# Altium integrated library Processor.IntLib: 68 symbols (part 2 of 4)
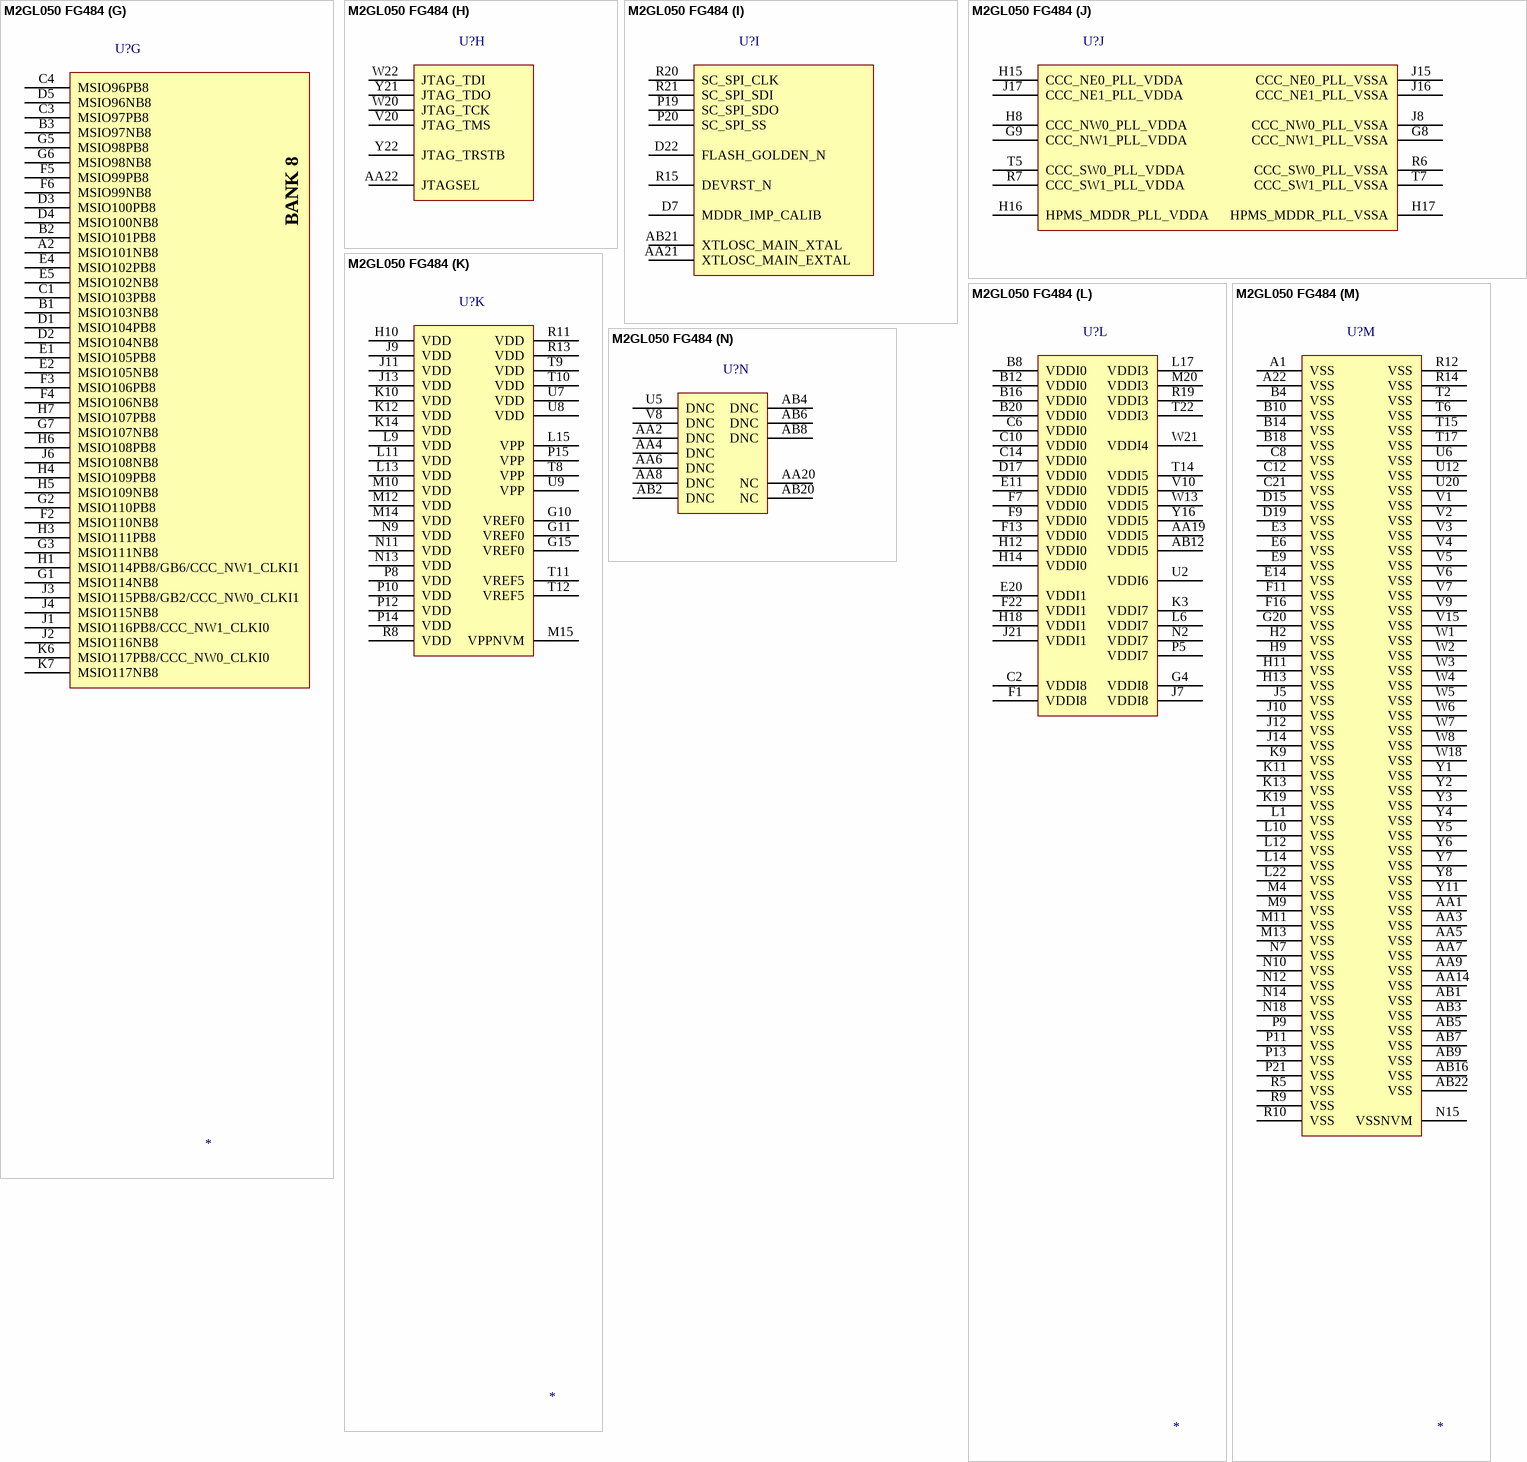
[diagram p28: symbol M2GL050 FG484]

## M2GL050 FG484
designator U?
IGLOO2 FPGA and SmartFusion2 SoC  FPGA; Value: *
footprint BGA484 P1.0 C23X23 H2.2 (BGA, 484-Balls, Body 23x23mm, Pitch 1mm, Microsemi)
part A pins: A3 DDRIO72NB0, A4 DDRIO72PB0, A5 DDRIO67NB0, A6 DDRIO66NB0, A7 DDRIO87PB0/CCC_NW1_CLKI3/MDDR_DQ_ECC1, A8 DDRIO87NB0/MDDR_DQ_ECC0, A9 DDRIO86NB0/MDDR_DQ1, A10 DDRIO83PB0/MDDR_DM_RDQS0, A11 DDRIO83NB0/MDDR_DQ4, A12 DDRIO80PB0/MDDR_DQ8, A13 DDRIO80NB0/MDDR_DQ9, A14 DDRIO76PB0/GB12/CCC_NE1_CLKI2/MDDR_DQ12, A15 DDRIO76NB0/MDDR_DQ13, A16 DDRIO59PB0/MDDR_CLK, A17 DDRIO59NB0/MDDR_CLK_N, A18 DDRIO58PB0/MDDR_BA0, A19 DDRIO58NB0/MDDR_BA1, A20 DDRIO54NB0/MDDR_ADDR6, A21 DDRIO51PB0/MDDR_ADDR10, B5 DDRIO67PB0, B6 DDRIO66PB0, B7 DDRIO90NB0/MDDR_DQS_ECC_N, B9 DDRIO86PB0/MDDR_DQ0, B11 DDRIO84PB0/MDDR_DQS0, B13 DDRIO78PB0/GB8/CCC_NE0_CLKI3/MDDR_DQS1, B15 DDRIO61PB0/MDDR_CKE, B17 DDRIO57NB0/MDDR_ADDR0, B19 DDRIO54PB0/MDDR_ADDR5, B21 DDRIO51NB0/MDDR_ADDR11, C5 DDRIO74PB0, C7 DDRIO90PB0/MDDR_DQS_ECC, C9 DDRIO88NB0, C11 DDRIO84NB0/MDDR_DQS0_N, C13 DDRIO78NB0/MDDR_DQS1_N, C15 DDRIO61NB0/MDDR_CS_N, C16 DDRIO57PB0/MDDR_BA2, C17 DDRIO55PB0/MDDR_ADDR3, C18 DDRIO55NB0/MDDR_ADDR4, C19 DDRIO53NB0/MDDR_ADDR7, C20 DDRIO53PB0/MDDR_ODT, D6 DDRIO74NB0, D8 DDRIO89NB0/MDDR_DM_RDQS_ECC, D9 DDRIO88PB0, D10 DDRIO82PB0/MDDR_DQ5, D11 DDRIO82NB0/MDDR_DQ6, D12 DDRIO79PB0/CCC_NE0_CLKI2/MDDR_DQ10, D13 DDRIO79NB0/MDDR_DQ11, D14 DDRIO75PB0/CCC_NE1_CLKI3/MDDR_DQ14, D16 DDRIO56PB0/MDDR_ADDR1, D18 DDRIO49PB0/MDDR_ADDR14, D20 DDRIO50NB0/MDDR_ADDR13, E7 DDRIO92PB0/MDDR_TMATCH_ECC_OUT, E8 DDRIO89PB0/MDDR_TMATCH_ECC_IN, E10 DDRIO85NB0/MDDR_DQ3, E12 DDRIO81PB0/MDDR_DQ7, E13 DDRIO75NB0/MDDR_DQ15, E15 DDRIO60PB0/MDDR_RESET_N, E16 DDRIO56NB0/MDDR_ADDR2, E17 DDRIO52PB0/MDDR_ADDR8, E18 DDRIO49NB0/MDDR_ADDR15, E19 DDRIO50PB0/MDDR_ADDR12, F8 DDRIO92NB0/CCC_NW0_CLKI2, F10 DDRIO85PB0/MDDR_DQ2, F12 DDRIO81NB0/MDDR_TMATCH_0_OUT, F14 DDRIO62PB0/MDDR_RAS_N, F15 DDRIO60NB0/MDDR_CAS_N, F17 DDRIO52NB0/MDDR_ADDR9, G12 DDRIO77PB0/MDDR_TMATCH_0_IN, G13 DDRIO77NB0/MDDR_DM_RDQS1, G14 DDRIO62NB0/MDDR_WE_N
part B pins: B22 MSIO47NB1, C22 MSIO47PB1, D21 MSI46NB1, E21 MSIO45NB1, E22 MSIO45PB1, F18 MSIO44NB1, F19 MSIO44PB1, F20 MSIO43NB1, F21 MSIO43PB1, G16 MSIO48NB1, G17 MSIO48PB1, G18 MSIO42NB1, G19 MSIO42PB1/GB14/VCCC_SE1_CLKI, G21 MSIO40NB1, G22 MSIO40PB1/CCC_NE1_CLKI1, H19 MSIO41NB1, H20 MSIO41PB1/GB10/VCCC_SE0_CLKI, H21 MSIO38NB1, H22 MSIO38PB1, J19 MSIO39NB1, J20 MSIO39PB1/CCC_NE0_CLKI1
part C pins: J18 MSIO24NB3, J22 MSIO20NB3/GB13/VCCC_SE1_CLKI, K15 MSIO22NB3, K16 MSIO23NB3, K17 MSIO23PB3, K18 MSIO24PB3, K20 MSIO19NB3, K21 MSIO19PB3, K22 MSIO20PB3/GB9/VCCC_SE0_CLKI, L16 MSIO22PB3, L18 MSIO18NB3, L19 MSIO18PB3, L20 MSIO17NB3, L21 MSIO17PB3, M16 MSIO14PB3, M17 MSIO14NB3, M18 MSIO15PB3, M19 MSIO15NB3, M21 MSIO16PB3, M22 MSIO16NB3, N16 MSIO8PB3, N17 MSIO8NB3, N19 MSIO12PB3/SPI_0_CLK, N20 MSIO12NB3/SPI_0_SDI, N21 MSIO13PB3/SPI_0_SDO, N22 MSIO13NB3/SPI_0_SS0, P16 MSIO7NB3, P17 MSIO6PB3, P18 MSIO6NB3, P22 MSIO11PB3/CCC_NE0_CLKI0, R16 MSIO7PB3, R17 MSIO1PB3, R18 MSIO1NB3, R22 MSIO11NB3/CCC_NE1_CLKI0, T18 MSIO2PB3, T19 MSIO2NB3, T20 MSIO5PB3, T21 MSIO5NB3, U19 MSIO0PB3, U21 MSIO4NB3, U22 MSIO4PB3, V19 MSIO0NB3, V21 MSIO3NB3, V22 MSIO3PB3
part D pins: AA10 DDRIO149PB5, AA11 DDRIO152PB5/GB3/CCC_SW0_CLKI3, AA12 DDRIO157PB5, AA13 DDRIO162PB5, AA15 DDRIO164NB5, AA16 DDRIO167PB5, AA17 DDRIO167NB5, AA18 DDRIO174NB5, AB10 DDRIO149NB5, AB11 DDRIO152NB5/GB7/CCC_SW1_CLKI2, AB13 DDRIO161PB5/GB11/VCCC_SE0_CLKI, AB14 DDRIO161NB5, AB15 DDRIO164PB5/VCCC_SE1_CLKI, AB17 DDRIO174PB5, AB18 DDRIO177PB5, AB19 DDRIO177NB5, T13 DDRIO166NB5, T16 DDRIO186NB5, U10 DDRIO154PB5, U11 DDRIO154NB5, U13 DDRIO166PB5, U14 DDRIO176PB5, U15 DDRIO176NB5, U16 DDRIO186PB5, U17 DDRIO189NB5, U18 DDRIO190NB5, V11 DDRIO156PB5, V12 DDRIO159NB5, V13 DDRIO171PB5, V14 DDRIO171NB5, V16 DDRIO184NB5, V17 DDRIO189PB5, V18 DDRIO190PB5, W9 DDRIO148PB5/PROBE_A, W10 DDRIO151PB5, W11 DDRIO156NB5, W12 DDRIO159PB5/CCC_SW1_CLKI3, W14 DDRIO169NB5, W15 DDRIO172NB5, W16 DDRIO184PB5, W17 DDRIO182NB5, W19 DDRIO187NB5, Y9 DDRIO148NB5/PROBE_B, Y10 DDRIO151NB5, Y12 DDRIO157NB5, Y13 DDRIO162NB5, Y14 DDRIO169PB5, Y15 DDRIO172PB5, Y17 DDRIO182PB5, Y18 DDRIO181PB5, Y19 DDRIO181NB5, Y20 DDRIO187PB5
part E pins: T1 MSIOD145NB6, U1 MSIOD145PB6, U3 MSIOD146PB6, U4 MSIOD146NB6
part F pins: K1 MSIOD121PB7/CCC_SW0_CLKI0, K2 MSIOD121NB7, K4 MSIOD118PB7/GB5/CCC_SW1_CLKI1, K5 MSIOD118NB7, K8 MSIOD119PB7/GB1/CCC_SW0_CLKI1, L2 MSIOD122PB7, L3 MSIOD122NB7, L4 MSIOD123PB7, L5 MSIOD123NB7, L7 MSIOD120NB7, L8 MSIOD119NB7, M1 MSIOD128NB7, M2 MSIOD126NB7, M3 MSIOD126PB7, M5 MSIOD124PB7, M6 MSIOD124NB7, M7 MSIOD120PB7/CCC_SW1_CLKI0, M8 MSIOD131NB7, N1 MSIOD128PB7, N3 MSIOD127PB7, N4 MSIOD127NB7, N5 MSIOD125PB7, N6 MSIOD125NB7, N8 MSIOD131PB7, P1 MSIOD130PB7, P2 MSIOD130NB7, P3 MSIOD129NB7, P4 MSIOD129PB7, P6 MSIOD132PB7, P7 MSIOD132NB7, R1 MSIOD133NB7, R2 MSIOD133PB7, R3 MSIOD134PB7, R4 MSIOD134NB7, T3 MSIOD135NB7, T4 MSIOD135PB7
part G pins: A2 MSIO101NB8, B1 MSIO103NB8, B2 MSIO101PB8, B3 MSIO97NB8, C1 MSIO103PB8, C3 MSIO97PB8, C4 MSIO96PB8, D1 MSIO104PB8, D2 MSIO104NB8, D3 MSIO100PB8, D4 MSIO100NB8, D5 MSIO96NB8, E1 MSIO105PB8, E2 MSIO105NB8, E4 MSIO102PB8, E5 MSIO102NB8, F2 MSIO110NB8, F3 MSIO106PB8, F4 MSIO106NB8, F5 MSIO99PB8, F6 MSIO99NB8, G1 MSIO114NB8, G2 MSIO110PB8, G3 MSIO111NB8, G5 MSIO98PB8, G6 MSIO98NB8, G7 MSIO107NB8, H1 MSIO114PB8/GB6/CCC_NW1_CLKI1, H3 MSIO111PB8, H4 MSIO109PB8, H5 MSIO109NB8, H6 MSIO108PB8, H7 MSIO107PB8, J1 MSIO116PB8/CCC_NW1_CLKI0, J2 MSIO116NB8, J3 MSIO115PB8/GB2/CCC_NW0_CLKI1, J4 MSIO115NB8, J6 MSIO108NB8, K6 MSIO117PB8/CCC_NW0_CLKI0, K7 MSIO117NB8
part H pins: AA22 JTAGSEL "Pull-up to VDDI4 through 1K ohm Resistor", V20 JTAG_TMS, W20 JTAG_TCK "Connect to either VDDI4 or VSS through resistor (200 to 1K ohm)", W22 JTAG_TDI, Y21 JTAG_TDO, Y22 JTAG_TRSTB "DNC or Pull down to VSS through 1K ohm resistor for upset immunity"
part I pins: AA21 XTLOSC_MAIN_EXTAL "Nominal 50K ohm internal weak pull-up to VPP. If unused, it can be left floating (DNC). The pin should not be grounded (VSS)", AB21 XTLOSC_MAIN_XTAL "Nominal 50K ohm internal weak pull-up to VPP. If unused, it can be left floating (DNC). The pin should not be grounded (VSS)", D7 MDDR_IMP_CALIB "DNC or VSS or VSS through the corresponding resistor.", D22 FLASH_GOLDEN_N, P19 SC_SPI_SDO, P20 SC_SPI_SS, R15 DEVRST_N "Pull up to VPP through 10 KOhm resistor. Nominal 22K ohm internal pull-up", R20 SC_SPI_CLK, R21 SC_SPI_SDI
part J pins: G8 CCC_NW1_PLL_VSSA, G9 CCC_NW1_PLL_VDDA "Must connect directly to 3.3V or 2.5V", H8 CCC_NW0_PLL_VDDA "Must connect directly to 3.3V or 2.5V", H15 CCC_NE0_PLL_VDDA "Must connect directly to 3.3V or 2.5V", H16 HPMS_MDDR_PLL_VDDA "Must connect directly to 3.3V or 2.5V", H17 HPMS_MDDR_PLL_VSSA, J8 CCC_NW0_PLL_VSSA, J15 CCC_NE0_PLL_VSSA, J16 CCC_NE1_PLL_VSSA, J17 CCC_NE1_PLL_VDDA "Must connect directly to 3.3V or 2.5V", R6 CCC_SW0_PLL_VSSA, R7 CCC_SW1_PLL_VDDA "Must connect directly to 3.3V or 2.5V", T5 CCC_SW0_PLL_VDDA "Must connect directly to 3.3V or 2.5V", T7 CCC_SW1_PLL_VSSA
part K pins: G10 VREF0 "DNC or VSS", G11 VREF0 "DNC or VSS", G15 VREF0 "DNC or VSS", H10 VDD "Must connect to VDD", J9 VDD "Must connect to VDD", J11 VDD "Must connect to VDD", J13 VDD "Must connect to VDD", K10 VDD "Must connect to VDD", K12 VDD "Must connect to VDD", K14 VDD "Must connect to VDD", L9 VDD "Must connect to VDD", L11 VDD "Must connect to VDD", L13 VDD "Must connect to VDD", L15 VPP "Must connect to VPP (2.5V or 3.3V)", M10 VDD "Must connect to VDD", M12 VDD "Must connect to VDD", M14 VDD "Must connect to VDD", M15 VPPNVM "Must connect to VPP (2.5V or 3.3V)", N9 VDD "Must connect to VDD", N11 VDD "Must connect to VDD", N13 VDD "Must connect to VDD", P8 VDD "Must connect to VDD", P10 VDD "Must connect to VDD", P12 VDD "Must connect to VDD", P14 VDD "Must connect to VDD", P15 VPP "Must connect to VPP (2.5V or 3.3V)", R8 VDD "Must connect to VDD", R11 VDD "Must connect to VDD", R13 VDD "Must connect to VDD", T8 VPP "Must connect to 2.5V or 3.3V", T9 VDD "Must connect to VDD", T10 VDD "Must connect to VDD", T11 VREF5 "DNC or VSS", T12 VREF5 "DNC or VSS", U7 VDD "Must connect to VDD", U8 VDD "Must connect to VDD", U9 VPP "Must connect to VPP (2.5V or 3.3V)"
part L pins: AA19 VDDI5, AB12 VDDI5, B8 VDDI0, B12 VDDI0, B16 VDDI0, B20 VDDI0, C2 VDDI8, C6 VDDI0, C10 VDDI0, C14 VDDI0, D17 VDDI0, E11 VDDI0, E20 VDDI1 "Must Connect to VDDI1", F1 VDDI8, F7 VDDI0, F9 VDDI0, F13 VDDI0, F22 VDDI1 "Must Connect to VDDI1", G4 VDDI8, H12 VDDI0, H14 VDDI0, H18 VDDI1 "Must Connect to VDDI1", J7 VDDI8, J21 VDDI1 "Must Connect to VDDI1", K3 VDDI7, L6 VDDI7, L17 VDDI3 "Must Connect to VDDI3", M20 VDDI3 "Must Connect to VDDI3", N2 VDDI7, P5 VDDI7, R19 VDDI3 "Must Connect to VDDI3", T14 VDDI5, T22 VDDI3 "Must Connect to VDDI3", U2 VDDI6, V10 VDDI5, W13 VDDI5, W21 VDDI4, Y16 VDDI5
part M pins: A1 VSS, A22 VSS, AA1 VSS, AA3 VSS, AA5 VSS, AA7 VSS, AA9 VSS, AA14 VSS, AB1 VSS, AB3 VSS, AB5 VSS, AB7 VSS, AB9 VSS, AB16 VSS, AB22 VSS, B4 VSS, B10 VSS, B14 VSS, B18 VSS, C8 VSS, C12 VSS, C21 VSS, D15 VSS, D19 VSS, E3 VSS, E6 VSS, E9 VSS, E14 VSS, F11 VSS, F16 VSS, G20 VSS, H2 VSS, H9 VSS, H11 VSS, H13 VSS, J5 VSS, J10 VSS, J12 VSS, J14 VSS, K9 VSS, K11 VSS, K13 VSS, K19 VSS, L1 VSS, L10 VSS, L12 VSS, L14 VSS, L22 VSS, M4 VSS, M9 VSS, M11 VSS, M13 VSS, N7 VSS, N10 VSS, N12 VSS, N14 VSS, N15 VSSNVM, N18 VSS, P9 VSS, P11 VSS, P13 VSS, P21 VSS, R5 VSS, R9 VSS, R10 VSS, R12 VSS, R14 VSS, T2 VSS, T6 VSS, T15 VSS, T17 VSS, U6 VSS, U12 VSS, U20 VSS, V1 VSS, V2 VSS, V3 VSS, V4 VSS, V5 VSS, V6 VSS, V7 VSS, V9 VSS, V15 VSS, W1 VSS, W2 VSS, W3 VSS, W4 VSS, W5 VSS, W6 VSS, W7 VSS, W8 VSS, W18 VSS, Y1 VSS, Y2 VSS, Y3 VSS, Y4 VSS, Y5 VSS, Y6 VSS, Y7 VSS, Y8 VSS, Y11 VSS
part N pins: AA2 DNC, AA4 DNC, AA6 DNC, AA8 DNC, AA20 NC, AB2 DNC, AB4 DNC, AB6 DNC, AB8 DNC, AB20 NC, U5 DNC, V8 DNC
part A text: BANK 0
part B text: BANK 1
part C text: BANK 3
part D text: BANK 5
part E text: BANK 6
part F text: BANK 7
part G text: BANK 8

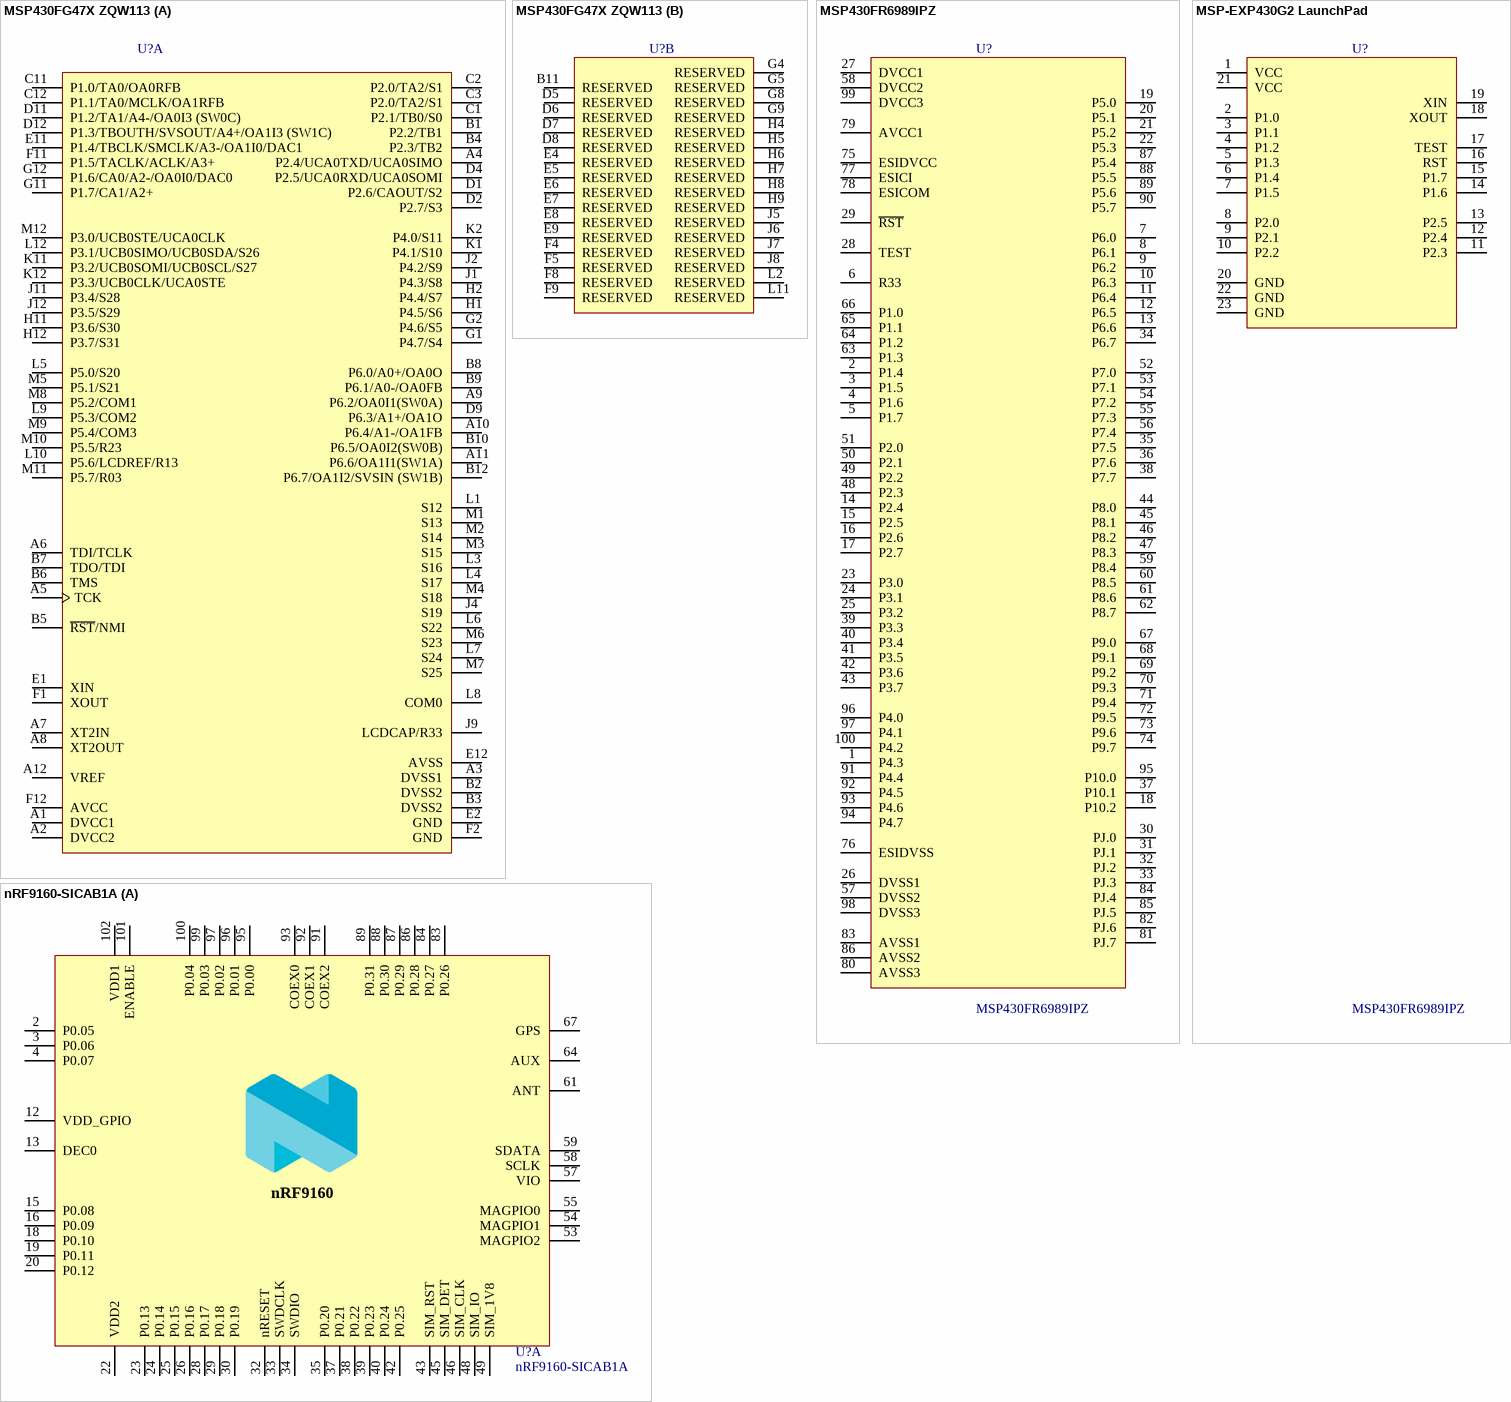
[diagram p11: symbols MSP430FG47X ZQW113 to nRF9160-SICAB1A]

## MSP430FG47X ZQW113
designator U?
Mixed Signal Microcontroller
footprint BGA113 P0.5 C7.0x7.0 H1.0 (BGA113 P0.5 C7.0x7.0 H1.0 Texas instrument ZQW113)
part A pins: A1 DVCC1 "Digital supply voltage, positive terminal. Supplies all digital parts.", A2 DVCC2 "Digital supply voltage, positive terminal. Supplies all digital parts.", A3 DVSS1 "Digital supply voltage, negative terminal. Supplies all digital parts.", A4 P2.4/UCA0TXD/UCA0SIMO, A5 TCK "Test clock (JTAG). TCK is the clock input port for device programming test and bootstrap loader start.", A6 TDI/TCLK, A7 XT2IN "Input port for crystal oscillator XT2", A8 XT2OUT "Output terminal of crystal oscillator XT2", A9 P6.2/OA0I1(SW0A), A10 P6.4/A1-/OA1FB, A11 P6.6/OA1I1(SW1A), A12 VREF "Input for an external reference voltage/internal reference voltage output", B1 P2.2/TB1, B2 DVSS2 "Digital supply voltage, negative terminal. Supplies all digital parts.", B3 DVSS2 "Digital supply voltage, negative terminal. Supplies all digital parts.", B4 P2.3/TB2, B5 ~{RST}/NMI, B6 TMS "Test mode select. TMS is used as an input port for device programming and test.", B7 TDO/TDI, B8 P6.0/A0+/OA0O, B9 P6.1/A0-/OA0FB, B10 P6.5/OA0I2(SW0B), B12 P6.7/OA1I2/SVSIN (SW1B), C1 P2.1/TB0/S0, C2 P2.0/TA2/S1, C3 P2.0/TA2/S1, C11 P1.0/TA0/OA0RFB, C12 P1.1/TA0/MCLK/OA1RFB, D1 P2.6/CAOUT/S2, D2 P2.7/S3, D4 P2.5/UCA0RXD/UCA0SOMI, D9 P6.3/A1+/OA1O, D11 P1.2/TA1/A4-/OA0I3 (SW0C), D12 P1.3/TBOUTH/SVSOUT/A4+/OA1I3 (SW1C), E1 XIN "Input port for crystal oscillator XT1. Standard or watch crystals can be connected.", E2 GND "Ground. It is used to shield the oscillator.", E11 P1.4/TBCLK/SMCLK/A3-/OA1I0/DAC1, E12 AVSS "Analog supply voltage, negative terminal.", F1 XOUT "Output port for crystal oscillator XT1. Standard or watch crystals can be connected.", F2 GND "Ground. It is used to shield the oscillator. See Note NO TAG.", F11 P1.5/TACLK/ACLK/A3+, F12 AVCC "Analog supply voltage, positive terminal.", G1 P4.7/S4, G2 P4.6/S5, G11 P1.7/CA1/A2+, G12 P1.6/CA0/A2-/OA0I0/DAC0, H1 P4.5/S6, H2 P4.4/S7, H11 P3.6/S30, H12 P3.7/S31, J1 P4.3/S8, J2 P4.2/S9, J4 S19 "LCD segment output 19", J9 LCDCAP/R33, J11 P3.4/S28, J12 P3.5/S29, K1 P4.1/S10, K2 P4.0/S11, K11 P3.2/UCB0SOMI/UCB0SCL/S27, K12 P3.3/UCB0CLK/UCA0STE, L1 S12 "LCD segment output 12", L3 S16 "LCD segment output 16", L4 S17 "LCD segment output 17", L5 P5.0/S20, L6 S22 "LCD segment output 22", L7 S24 "LCD segment output 24", L8 COM0 "Common output, COM0-3 are used for LCD backplanes", L9 P5.3/COM2, L10 P5.6/LCDREF/R13, L12 P3.1/UCB0SIMO/UCB0SDA/S26, M1 S13 "LCD segment output 13", M2 S14 "LCD segment output 14", M3 S15 "LCD segment output 15", M4 S18 "LCD segment output 18", M5 P5.1/S21, M6 S23 "LCD segment output 23", M7 S25 "LCD segment output 25", M8 P5.2/COM1, M9 P5.4/COM3, M10 P5.5/R23, M11 P5.7/R03, M12 P3.0/UCB0STE/UCA0CLK
part B pins: B11 RESERVED "BGA package unused balls. Connection to DVSS/AVSS recommended.", D5 RESERVED "BGA package unused balls. Connection to DVSS/AVSS recommended.", D6 RESERVED "BGA package unused balls. Connection to DVSS/AVSS recommended.", D7 RESERVED "BGA package unused balls. Connection to DVSS/AVSS recommended.", D8 RESERVED "BGA package unused balls. Connection to DVSS/AVSS recommended.", E4 RESERVED "BGA package unused balls. Connection to DVSS/AVSS recommended.", E5 RESERVED "BGA package unused balls. Connection to DVSS/AVSS recommended.", E6 RESERVED "BGA package unused balls. Connection to DVSS/AVSS recommended.", E7 RESERVED "BGA package unused balls. Connection to DVSS/AVSS recommended.", E8 RESERVED "BGA package unused balls. Connection to DVSS/AVSS recommended.", E9 RESERVED "BGA package unused balls. Connection to DVSS/AVSS recommended.", F4 RESERVED "BGA package unused balls. Connection to DVSS/AVSS recommended.", F5 RESERVED "BGA package unused balls. Connection to DVSS/AVSS recommended.", F8 RESERVED "BGA package unused balls. Connection to DVSS/AVSS recommended.", F9 RESERVED "BGA package unused balls. Connection to DVSS/AVSS recommended.", G4 RESERVED "BGA package unused balls. Connection to DVSS/AVSS recommended.", G5 RESERVED "BGA package unused balls. Connection to DVSS/AVSS recommended.", G8 RESERVED "BGA package unused balls. Connection to DVSS/AVSS recommended.", G9 RESERVED "BGA package unused balls. Connection to DVSS/AVSS recommended.", H4 RESERVED "BGA package unused balls. Connection to DVSS/AVSS recommended.", H5 RESERVED "BGA package unused balls. Connection to DVSS/AVSS recommended.", H6 RESERVED "BGA package unused balls. Connection to DVSS/AVSS recommended.", H7 RESERVED "BGA package unused balls. Connection to DVSS/AVSS recommended.", H8 RESERVED "BGA package unused balls. Connection to DVSS/AVSS recommended.", H9 RESERVED "BGA package unused balls. Connection to DVSS/AVSS recommended.", J5 RESERVED "BGA package unused balls. Connection to DVSS/AVSS recommended.", J6 RESERVED "BGA package unused balls. Connection to DVSS/AVSS recommended.", J7 RESERVED "BGA package unused balls. Connection to DVSS/AVSS recommended.", J8 RESERVED "BGA package unused balls. Connection to DVSS/AVSS recommended.", L2 RESERVED "BGA package unused balls. Connection to DVSS/AVSS recommended.", L11 RESERVED "BGA package unused balls. Connection to DVSS/AVSS recommended."

## MSP430FR6989IPZ
designator U?
16-bit Microcontrollers - MCU 16MHz ULP MCU; Value: MSP430FR6989IPZ
footprint QFP100 P0.5 C14X14 H1.4 (QFP, 100-Leads, Body 14x14mm, Pitch 0.5mm, IPC Medium Density)
pins: 1 P4.3, 2 P1.4, 3 P1.5, 4 P1.6, 5 P1.7, 6 R33, 7 P6.0, 8 P6.1, 9 P6.2, 10 P6.3, 11 P6.4, 12 P6.5, 13 P6.6, 14 P2.4, 15 P2.5, 16 P2.6, 17 P2.7, 18 P10.2, 19 P5.0, 20 P5.1, 21 P5.2, 22 P5.3, 23 P3.0, 24 P3.1, 25 P3.2, 26 DVSS1, 27 DVCC1, 28 TEST, 29 ~{RST}, 30 PJ.0, 31 PJ.1, 32 PJ.2, 33 PJ.3, 34 P6.7, 35 P7.5, 36 P7.6, 37 P10.1, 38 P7.7, 39 P3.3, 40 P3.4, 41 P3.5, 42 P3.6, 43 P3.7, 44 P8.0, 45 P8.1, 46 P8.2, 47 P8.3, 48 P2.3, 49 P2.2, 50 P2.1, 51 P2.0, 52 P7.0, 53 P7.1, 54 P7.2, 55 P7.3, 56 P7.4, 57 DVSS2, 58 DVCC2, 59 P8.4, 60 P8.5, 61 P8.6, 62 P8.7, 63 P1.3, 64 P1.2, 65 P1.1, 66 P1.0, 67 P9.0, 68 P9.1, 69 P9.2, 70 P9.3, 71 P9.4, 72 P9.5, 73 P9.6, 74 P9.7, 75 ESIDVCC, 76 ESIDVSS, 77 ESICI, 78 ESICOM, 79 AVCC1, 80 AVSS3, 81 PJ.7, 82 PJ.6, 83 AVSS1, 84 PJ.4, 85 PJ.5, 86 AVSS2, 87 P5.4, 88 P5.5, 89 P5.6, 90 P5.7, 91 P4.4, 92 P4.5, 93 P4.6, 94 P4.7, 95 P10.0, 96 P4.0, 97 P4.1, 98 DVSS3, 99 DVCC3, 100 P4.2

## MSP-EXP430G2 LaunchPad
designator U?, comment MSP430FR6989IPZ
16-bit Microcontrollers - MSP430 Family; Value: MSP430FR6989IPZ
footprint MSP-EXP430G2 LaunchPad (KIT MSP430G2553, Body 66x51mm)
pins: 1 VCC, 2 P1.0, 3 P1.1, 4 P1.2, 5 P1.3, 6 P1.4, 7 P1.5, 8 P2.0, 9 P2.1, 10 P2.2, 11 P2.3, 12 P2.4, 13 P2.5, 14 P1.6, 15 P1.7, 16 RST, 17 TEST, 18 XOUT, 19 XIN, 20 GND, 21 VCC, 22 GND, 23 GND

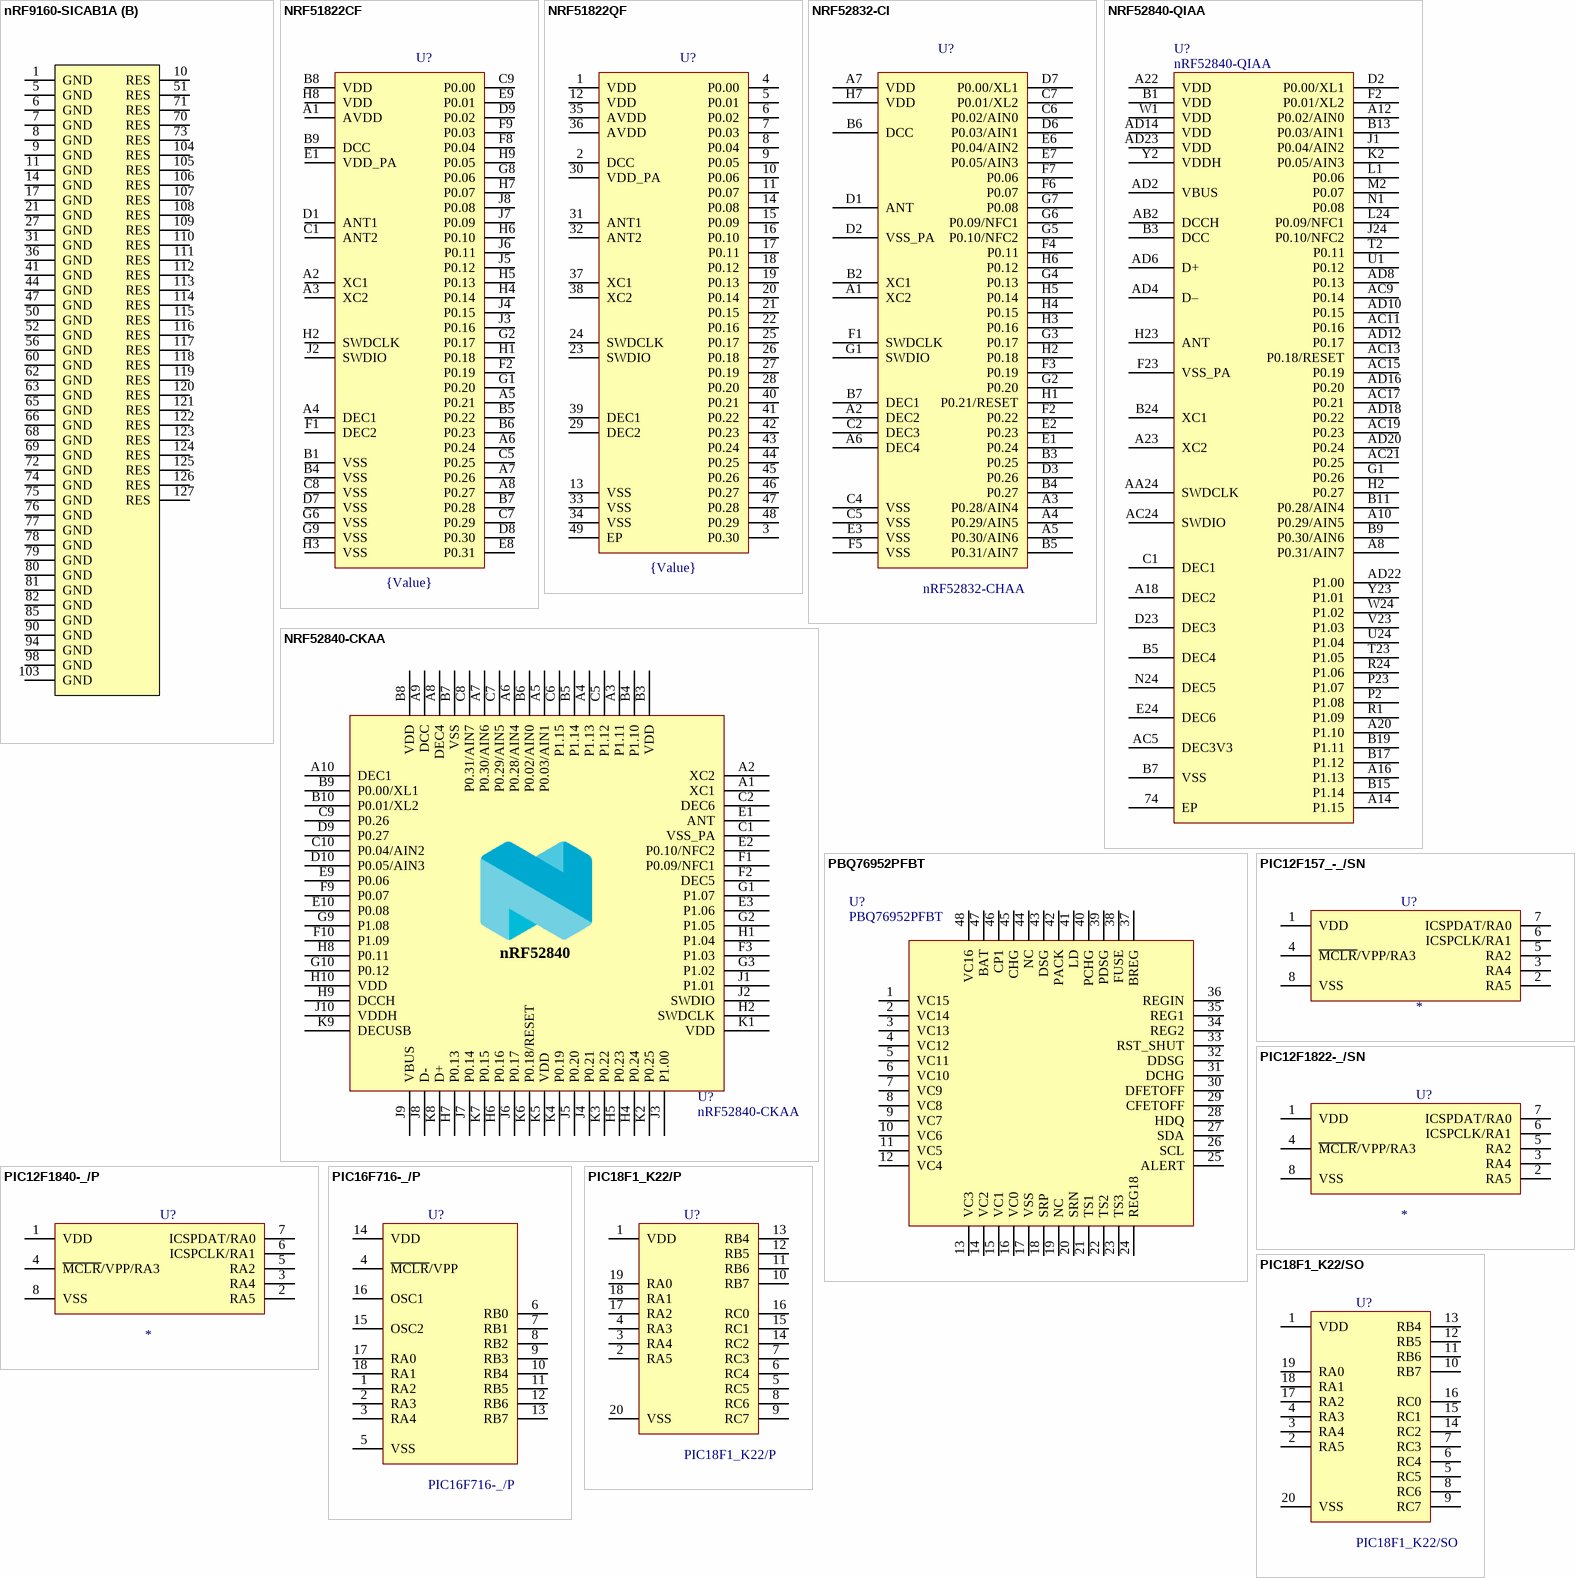
[diagram p12: symbols nRF9160-SICAB1A to PIC18F1_K22/SO]

## nRF9160-SICAB1A
designator U?
Low power System-in-Package with integrated LTE-M/NB-IoT modem and GPS; Value: nRF9160-SICAB1A; ComponentLink1URL: N.A.; ComponentLink1Description: Datasheet; ComponentLink2URL: N.A.; ComponentLink2Description: Supplier link
footprint nRF9160-SICAB1A (LGA, 103-Leads, Body 16x10mm, Pitch 0.5mm)
part A pins: 2 P0.05, 3 P0.06, 4 P0.07, 12 VDD_GPIO, 13 DEC0, 15 P0.08, 16 P0.09, 18 P0.10, 19 P0.11, 20 P0.12, 22 VDD2, 23 P0.13, 24 P0.14, 25 P0.15, 26 P0.16, 28 P0.17, 29 P0.18, 30 P0.19, 32 nRESET, 33 SWDCLK, 34 SWDIO, 35 P0.20, 37 P0.21, 38 P0.22, 39 P0.23, 40 P0.24, 42 P0.25, 43 SIM_RST, 45 SIM_DET, 46 SIM_CLK, 48 SIM_IO, 49 SIM_1V8, 53 MAGPIO2, 54 MAGPIO1, 55 MAGPIO0, 57 VIO, 58 SCLK, 59 SDATA, 61 ANT, 64 AUX, 67 GPS, 83 P0.26, 84 P0.27, 86 P0.28, 87 P0.29, 88 P0.30, 89 P0.31, 91 COEX2, 92 COEX1, 93 COEX0, 95 P0.00, 96 P0.01, 97 P0.02, 99 P0.03, 100 P0.04, 101 ENABLE, 102 VDD1
part B pins: 1 GND, 5 GND, 6 GND, 7 GND, 8 GND, 9 GND, 10 RES, 11 GND, 14 GND, 17 GND, 21 GND, 27 GND, 31 GND, 36 GND, 41 GND, 44 GND, 47 GND, 50 GND, 51 RES, 52 GND, 56 GND, 60 GND, 62 GND, 63 GND, 65 GND, 66 GND, 68 GND, 69 GND, 70 RES, 71 RES, 72 GND, 73 RES, 74 GND, 75 GND, 76 GND, 77 GND, 78 GND, 79 GND, 80 GND, 81 GND, 82 GND, 85 GND, 90 GND, 94 GND, 98 GND, 103 GND, 104 RES, 105 RES, 106 RES, 107 RES, 108 RES, 109 RES, 110 RES, 111 RES, 112 RES, 113 RES, 114 RES, 115 RES, 116 RES, 117 RES, 118 RES, 119 RES, 120 RES, 121 RES, 122 RES, 123 RES, 124 RES, 125 RES, 126 RES, 127 RES
part A text: nRF9160

## NRF51822CF
designator U?, comment {Value}
Multiprotocol Bluetooth® low energy/2.4 GHz RF System on Chip; Value: {Value}
footprint NRF51822CF (uBGA P0.4 C3.8x3.83)
pins: A1 AVDD, A2 XC1, A3 XC2, A4 DEC1, A5 P0.21, A6 P0.24, A7 P0.26, A8 P0.27, B1 VSS, B4 VSS, B5 P0.22, B6 P0.23, B7 P0.28, B8 VDD, B9 DCC, C1 ANT2, C5 P0.25, C6 hidden, C7 P0.29, C8 VSS, C9 P0.00, D1 ANT1, D7 VSS, D8 P0.30, D9 P0.02, E1 VDD_PA, E2 hidden, E3 hidden, E7 hidden, E8 P0.31, E9 P0.01, F1 DEC2, F2 P0.19, F3 hidden, F7 hidden, F8 P0.04, F9 P0.03, G1 P0.20, G2 P0.17, G3 hidden, G4 hidden, G5 hidden, G6 VSS, G7 hidden, G8 P0.06, G9 VSS, H1 P0.18, H2 SWDCLK, H3 VSS, H4 P0.14, H5 P0.13, H6 P0.10, H7 P0.07, H8 VDD, H9 P0.05, J2 SWDIO, J3 P0.16, J4 P0.15, J5 P0.12, J6 P0.11, J7 P0.09, J8 P0.08

## NRF51822QF
designator U?, comment value {Value}  (hidden comment: NRF51822)
Multiprotocol Bluetooth® low energy/2.4 GHz RF System on Chip
footprint NRF52822QF (QFN, 48-Leads, Body 6x6mm, Pitch 0.4mm, Thermal Pad 4.6x4.6mm, IPC Medium Density)
pins: 1 VDD, 2 DCC, 3 P0.30, 4 P0.00, 5 P0.01, 6 P0.02, 7 P0.03, 8 P0.04, 9 P0.05, 10 P0.06, 11 P0.07, 12 VDD, 13 VSS, 14 P0.08, 15 P0.09, 16 P0.10, 17 P0.11, 18 P0.12, 19 P0.13, 20 P0.14, 21 P0.15, 22 P0.16, 23 SWDIO, 24 SWDCLK, 25 P0.17, 26 P0.18, 27 P0.19, 28 P0.20, 29 DEC2, 30 VDD_PA, 31 ANT1, 32 ANT2, 33 VSS, 34 VSS, 35 AVDD, 36 AVDD, 37 XC1, 38 XC2, 39 DEC1, 40 P0.21, 41 P0.22, 42 P0.23, 43 P0.24, 44 P0.25, 45 P0.26, 46 P0.27, 47 P0.28, 48 P0.29, 49 EP

## NRF52832-CI
designator U?, comment nRF52832-CHAA
Multi-protocol Bluetooth Low Energy, ANT and 2.4GHz proprietary system-on-chip; Value: nRF52832-CHAA
footprint NRF52832CI (uBGA P0.4 C3.0x3.2)
pins: A1 XC2, A2 DEC2, A3 P0.28/AIN4, A4 P0.29/AIN5, A5 P0.30/AIN6, A6 DEC4, A7 VDD, B2 XC1, B3 P0.25, B4 P0.27, B5 P0.31/AIN7, B6 DCC, B7 DEC1, C2 DEC3, C4 VSS, C5 VSS, C6 P0.02/AIN0, C7 P0.01/XL2, D1 ANT, D2 VSS_PA, D3 P0.26, D6 P0.03/AIN1, D7 P0.00/XL1, E1 P0.24, E2 P0.23, E3 VSS, E6 P0.04/AIN2, E7 P0.05/AIN3, F1 SWDCLK, F2 P0.22, F3 P0.19, F4 P0.11, F5 VSS, F6 P0.07, F7 P0.06, G1 SWDIO, G2 P0.20, G3 P0.17, G4 P0.13, G5 P0.10/NFC2, G6 P0.09/NFC1, G7 P0.08, H1 P0.21/RESET, H2 P0.18, H3 P0.16, H4 P0.15, H5 P0.14, H6 P0.12, H7 VDD

## NRF52840-CKAA
designator U?, comment nRF52840-CKAA
Multi-protocol Bluetooth Low Energy, IEEE 802.15.4, ANT and 2.4GHz proprietary system-on-chip; Value: nRF52840-CKAA
footprint BGA94 P0.35 C3.55X3.6 H0.35 (BGA, 94-Leads, Pitch 0.35mm, Body 3.55x3.6mm, Height 0.35mm)
pins: A1 XC1, A2 XC2, A3 P1.11, A4 P1.13, A5 P0.03/AIN1, A6 P0.28/AIN4, A7 P0.30/AIN6, A8 DEC4, A9 DCC, A10 DEC1, B3 VDD, B4 P1.10, B5 P1.14, B6 P0.02/AIN0, B7 VSS, B8 VDD, B9 P0.00/XL1, B10 P0.01/XL2, C1 VSS_PA, C2 DEC6, C4 GND (power) hidden to GND, C5 P1.12, C6 P1.15, C7 P0.29/AIN5, C8 P0.31/AIN7, C9 P0.26, C10 P0.04/AIN2, D3 GND (power) hidden to GND, D4 GND (power) hidden to GND, D5 GND (power) hidden to GND, D6 GND (power) hidden to GND, D7 GND (power) hidden to GND, D8 GND (power) hidden to GND, D9 P0.27, D10 P0.05/AIN3, E1 ANT, E2 P0.10/NFC2, E3 P1.06, E4 GND (power) hidden to GND, E5 GND (power) hidden to GND, E6 GND (power) hidden to GND, E7 GND (power) hidden to GND, E8 GND (power) hidden to GND, E9 P0.06, E10 P0.08, F1 P0.09/NFC1, F2 DEC5, F3 P1.03, F4 GND (power) hidden to GND, F5 GND (power) hidden to GND, F6 GND (power) hidden to GND, F7 GND (power) hidden to GND, F8 GND (power) hidden to GND, F9 P0.07, F10 P1.09, G1 P1.07, G2 P1.05, G3 P1.02, G4 GND (power) hidden to GND, G5 GND (power) hidden to GND, G6 GND (power) hidden to GND, G7 GND (power) hidden to GND, G8 GND (power) hidden to GND, G9 P1.08, G10 P0.12, H1 P1.04, H2 SWDCLK, H4 P0.24, H5 P0.23, H6 P0.16, H7 P0.13, H8 P0.11, H9 DCCH, H10 VDD, J1 P1.01, J2 SWDIO, J3 P1.00, J4 P0.21, J5 P0.20, J6 P0.17, J7 P0.14, J8 D-, J9 VBUS, J10 VDDH, K1 VDD, K2 P0.25, K3 P0.22, K4 P0.19, K5 VDD, K6 P0.18/RESET, K7 P0.15, K8 D+, K9 DECUSB, K10 GND (power) hidden to GND
text: nRF52840

## NRF52840-QIAA
designator U?, comment nRF52840-QIAA
Multi-protocol Bluetooth Low Energy, ANT and 2.4GHz proprietary system-on-chip; Value: nRF52840-QIAA
footprint NRF52840-QIAA (AQFN, 73-Leads, Body 7x7mm, Pitch 0.5mm)
pins: 74 EP, A8 P0.31/AIN7, A10 P0.29/AIN5, A12 P0.02/AIN0, A14 P1.15, A16 P1.13, A18 DEC2, A20 P1.10, A22 VDD, A23 XC2, AA24 SWDCLK, AB2 DCCH, AC5 DEC3V3, AC9 P0.14, AC11 P0.16, AC13 P0.18/RESET, AC15 P0.19, AC17 P0.21, AC19 P0.23, AC21 P0.25, AC24 SWDIO, AD2 VBUS, AD4 D–, AD6 D+, AD8 P0.13, AD10 P0.15, AD12 P0.17, AD14 VDD, AD16 P0.20, AD18 P0.22, AD20 P0.24, AD22 P1.00, AD23 VDD, B1 VDD, B3 DCC, B5 DEC4, B7 VSS, B9 P0.30/AIN6, B11 P0.28/AIN4, B13 P0.03/AIN1, B15 P1.14, B17 P1.12, B19 P1.11, B24 XC1, C1 DEC1, D2 P0.00/XL1, D23 DEC3, E24 DEC6, F2 P0.01/XL2, F23 VSS_PA, G1 P0.26, H2 P0.27, H23 ANT, J1 P0.04/AIN2, J24 P0.10/NFC2, K2 P0.05/AIN3, L1 P0.06, L24 P0.09/NFC1, M2 P0.07, N1 P0.08, N24 DEC5, P2 P1.08, P23 P1.07, R1 P1.09, R24 P1.06, T2 P0.11, T23 P1.05, U1 P0.12, U24 P1.04, V23 P1.03, W1 VDD, W24 P1.02, Y2 VDDH, Y23 P1.01

## PBQ76952PFBT
designator U?
High Accuracy Battery Monitor and Protector; Value: PBQ76952PFBT
footprint LQFP48 P0.5 C7.0X7.0 H1.0 (TSQFP, 48-Leads, Body 7.00x7.00mm, Pitch 0.50mm, IPC Medium Density)
pins: 1 VC15, 2 VC14, 3 VC13, 4 VC12, 5 VC11, 6 VC10, 7 VC9, 8 VC8, 9 VC7, 10 VC6, 11 VC5, 12 VC4, 13 VC3, 14 VC2, 15 VC1, 16 VC0, 17 VSS, 18 SRP, 19 NC, 20 SRN, 21 TS1, 22 TS2, 23 TS3, 24 REG18, 25 ALERT, 26 SCL, 27 SDA, 28 HDQ, 29 CFETOFF, 30 DFETOFF, 31 DCHG, 32 DDSG, 33 RST_SHUT, 34 REG2, 35 REG1, 36 REGIN, 37 BREG, 38 FUSE, 39 PDSG, 40 PCHG, 41 LD, 42 PACK, 43 DSG, 44 NC, 45 CHG, 46 CP1, 47 BAT, 48 VC16

## PIC12F157_-_/SN
designator U?
8-Pin Flash Microcontrollers with XLP Technology; Value: *
footprint SO8 P1.27 C4.0X5.0 H1.75 (8-Pin Small Outline Integrated Circuit 1.27 mm Pitch, IPC Medium Density)
pins: 1 VDD, 2 RA5, 3 RA4, 4 ~{MCLR}/VPP/RA3, 5 RA2, 6 ICSPCLK/RA1, 7 ICSPDAT/RA0, 8 VSS

## PIC12F1822-_/SN
designator U?
8-Pin Flash Microcontrollers with XLP Technology; Value: *
footprint SO8 P1.27 C4.0X5.0 H1.75 (8-Pin Small Outline Integrated Circuit 1.27 mm Pitch, IPC Medium Density)
pins: 1 VDD, 2 RA5, 3 RA4, 4 ~{MCLR}/VPP/RA3, 5 RA2, 6 ICSPCLK/RA1, 7 ICSPDAT/RA0, 8 VSS

## PIC12F1840-_/P
designator U?
8-Pin Flash Microcontrollers with XLP Technology; Value: *
footprint DIP8 P2.54 W7.62 H5.0 (8-Pin Dual in Line Integrated Circuit 2.54 Pitch, 7.62 Width, Case 10x6mm)
pins: 1 VDD, 2 RA5, 3 RA4, 4 ~{MCLR}/VPP/RA3, 5 RA2, 6 ICSPCLK/RA1, 7 ICSPDAT/RA0, 8 VSS

## PIC16F716-_/P
designator U?
Flash Microcontrollers  with 10-Bit A/D and nanoWatt Technology; Value: PIC16F716-_/P
footprint DIP18 P2.54 W7.62 H5.0 (14-Pin Dual in Line Integrated Circuit 2.54 Pitch, 7.62 Width, Case 22.4x6mm)
pins: 1 RA2, 2 RA3, 3 RA4, 4 ~{MCLR}/VPP, 5 VSS, 6 RB0, 7 RB1, 8 RB2, 9 RB3, 10 RB4, 11 RB5, 12 RB6, 13 RB7, 14 VDD, 15 OSC2, 16 OSC1, 17 RA0, 18 RA1

## PIC18F1_K22/P
designator U?
Flash Microcontrollers  with 10-Bit A/D and nanoWatt Technology; Value: PIC18F1_K22/P
footprint DIP20 P2.54 W7.62 H5.0 (14-Pin Dual in Line Integrated Circuit 2.54 Pitch, 7.62 Width, Case 26.2x6.4mm)
pins: 1 VDD, 2 RA5, 3 RA4, 4 RA3, 5 RC5, 6 RC4, 7 RC3, 8 RC6, 9 RC7, 10 RB7, 11 RB6, 12 RB5, 13 RB4, 14 RC2, 15 RC1, 16 RC0, 17 RA2, 18 RA1, 19 RA0, 20 VSS

## PIC18F1_K22/SO
designator U?
Flash Microcontrollers  with 10-Bit A/D and nanoWatt Technology; Value: PIC18F1_K22/SO
footprint SO20 P1.27 C7.5X12.8 H2.7 (SOIC, 20-Leads, Body 12.80x7.50mm, Pitch 1.27mm, IPC Medium Density)
pins: 1 VDD, 2 RA5, 3 RA4, 4 RA3, 5 RC5, 6 RC4, 7 RC3, 8 RC6, 9 RC7, 10 RB7, 11 RB6, 12 RB5, 13 RB4, 14 RC2, 15 RC1, 16 RC0, 17 RA2, 18 RA1, 19 RA0, 20 VSS

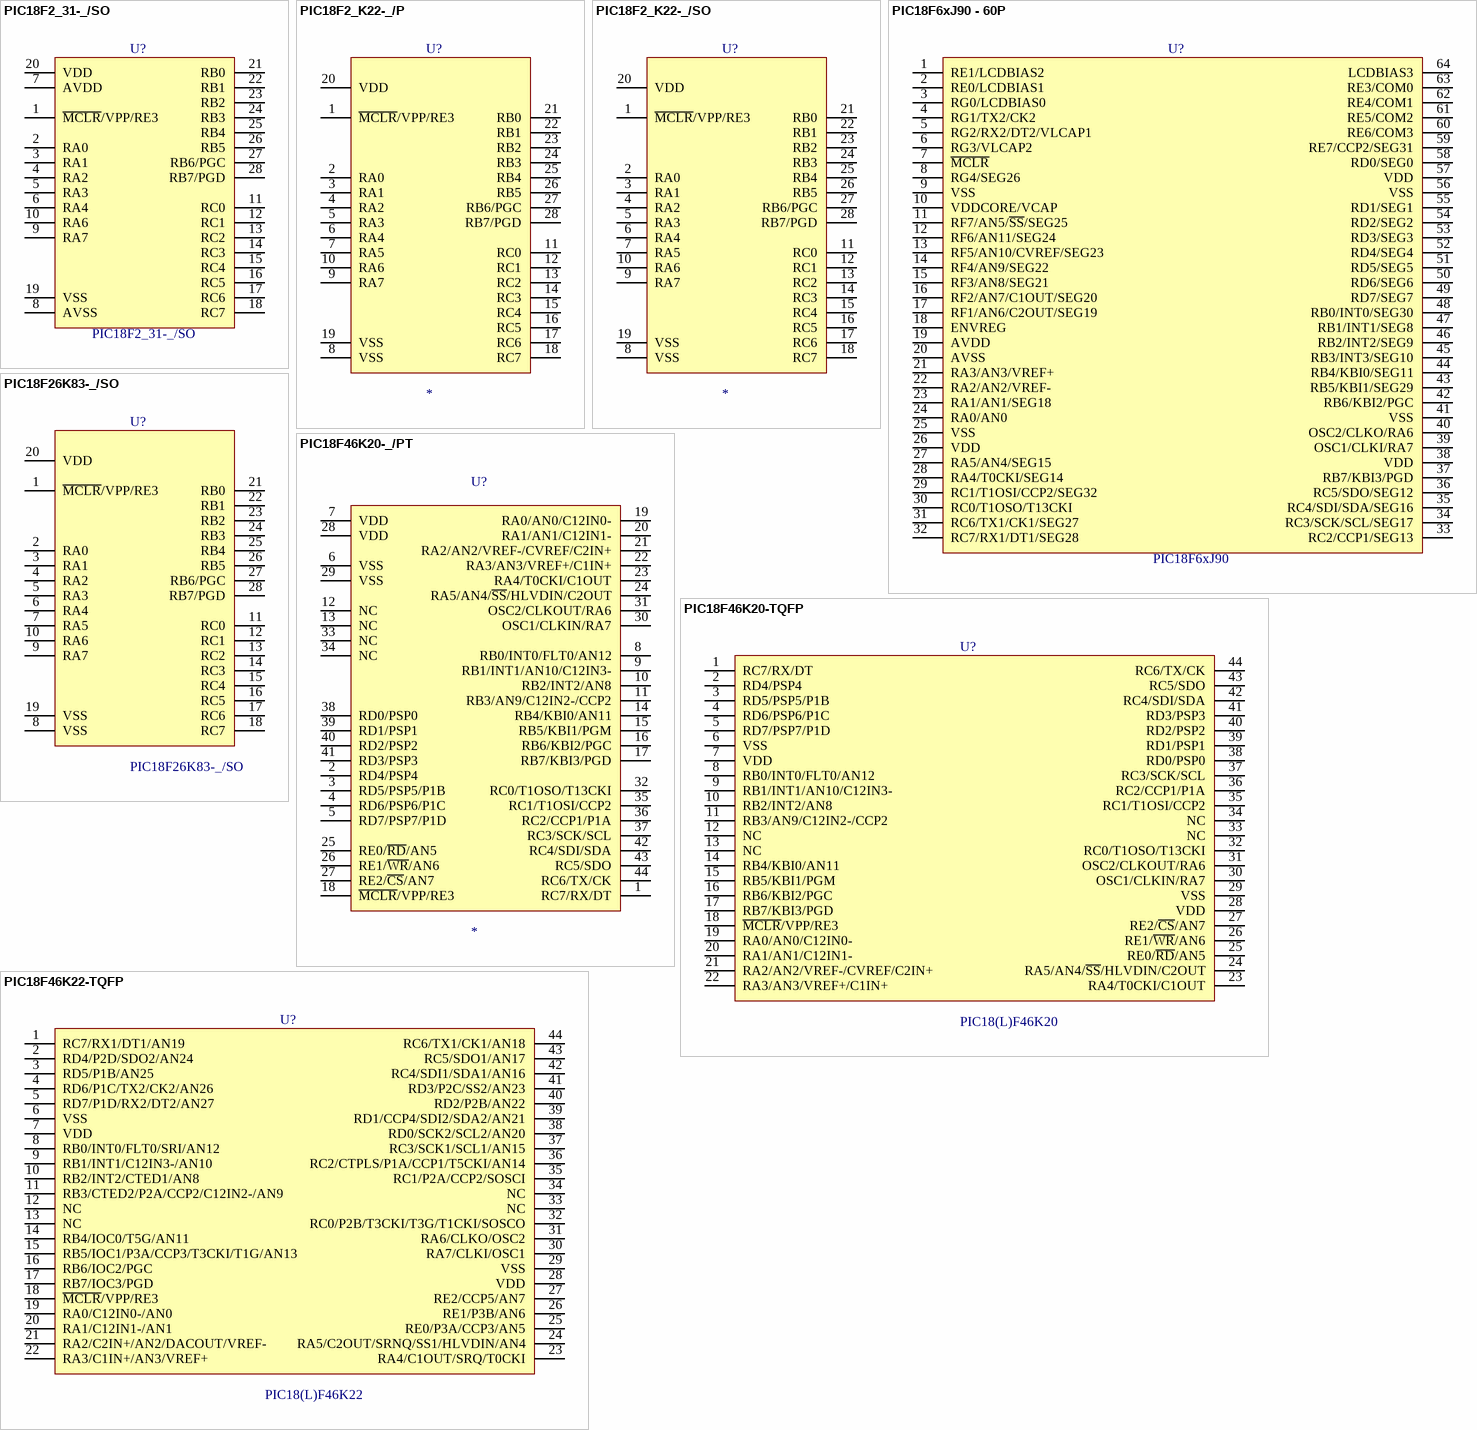
[diagram p13: symbols PIC18F2_31-_/SO to PIC18F46K22-TQFP]

## PIC18F2_31-_/SO
designator U?
Flash Microcontrollers with  nanoWatt Technology, High Performance PWM and A/D; Value: PIC18F2_31-_/SO
footprint SO28 P1.27 C7.5X17.9 H2.7 (SOIC, 28-Leads, Body 17.9x7.50mm, Pitch 1.27mm, IPC Medium Density)
pins: 1 ~{MCLR}/VPP/RE3, 2 RA0, 3 RA1, 4 RA2, 5 RA3, 6 RA4, 7 AVDD, 8 AVSS, 9 RA7, 10 RA6, 11 RC0, 12 RC1, 13 RC2, 14 RC3, 15 RC4, 16 RC5, 17 RC6, 18 RC7, 19 VSS, 20 VDD, 21 RB0, 22 RB1, 23 RB2, 24 RB3, 25 RB4, 26 RB5, 27 RB6/PGC, 28 RB7/PGD

## PIC18F2_K22-_/P
designator U?
Flash Microcontrollers  with 10-Bit A/D and nanoWatt Technology; Value: *
footprint DIP28 P2.54 W7.62 H5.0 (28-Pin Dual in Line Integrated Circuit 2.54 Pitch, 7.62 Width, Case 35.5x6mm)
pins: 1 ~{MCLR}/VPP/RE3, 2 RA0, 3 RA1, 4 RA2, 5 RA3, 6 RA4, 7 RA5, 8 VSS, 9 RA7, 10 RA6, 11 RC0, 12 RC1, 13 RC2, 14 RC3, 15 RC4, 16 RC5, 17 RC6, 18 RC7, 19 VSS, 20 VDD, 21 RB0, 22 RB1, 23 RB2, 24 RB3, 25 RB4, 26 RB5, 27 RB6/PGC, 28 RB7/PGD

## PIC18F2_K22-_/SO
designator U?
Flash Microcontrollers  with 10-Bit A/D and nanoWatt Technology; Value: *
footprint SO28 P1.27 C7.5X17.9 H2.7 (SOIC, 28-Leads, Body 17.9x7.50mm, Pitch 1.27mm, IPC Medium Density)
pins: 1 ~{MCLR}/VPP/RE3, 2 RA0, 3 RA1, 4 RA2, 5 RA3, 6 RA4, 7 RA5, 8 VSS, 9 RA7, 10 RA6, 11 RC0, 12 RC1, 13 RC2, 14 RC3, 15 RC4, 16 RC5, 17 RC6, 18 RC7, 19 VSS, 20 VDD, 21 RB0, 22 RB1, 23 RB2, 24 RB3, 25 RB4, 26 RB5, 27 RB6/PGC, 28 RB7/PGD

## PIC18F6xJ90 - 60P
designator U?, comment PIC18F6xJ90
64Pin, High-Performance  Microcontrollers with LCD Driver; Value: PIC18F6xJ90
footprint TQFP64 P0.5 C12X12 H1.2 (TQFP, 64-Leads, Body 10.00x10.00mm, Pitch 0.50mm)
pins: 1 RE1/LCDBIAS2, 2 RE0/LCDBIAS1, 3 RG0/LCDBIAS0, 4 RG1/TX2/CK2, 5 RG2/RX2/DT2/VLCAP1, 6 RG3/VLCAP2, 7 ~{MCLR}, 8 RG4/SEG26, 9 VSS, 10 VDDCORE/VCAP, 11 RF7/AN5/~{SS}/SEG25, 12 RF6/AN11/SEG24, 13 RF5/AN10/CVREF/SEG23, 14 RF4/AN9/SEG22, 15 RF3/AN8/SEG21, 16 RF2/AN7/C1OUT/SEG20, 17 RF1/AN6/C2OUT/SEG19, 18 ENVREG, 19 AVDD, 20 AVSS, 21 RA3/AN3/VREF+, 22 RA2/AN2/VREF-, 23 RA1/AN1/SEG18, 24 RA0/AN0, 25 VSS, 26 VDD, 27 RA5/AN4/SEG15, 28 RA4/T0CKI/SEG14, 29 RC1/T1OSI/CCP2/SEG32, 30 RC0/T1OSO/T13CKI, 31 RC6/TX1/CK1/SEG27, 32 RC7/RX1/DT1/SEG28, 33 RC2/CCP1/SEG13, 34 RC3/SCK/SCL/SEG17, 35 RC4/SDI/SDA/SEG16, 36 RC5/SDO/SEG12, 37 RB7/KBI3/PGD, 38 VDD, 39 OSC1/CLKI/RA7, 40 OSC2/CLKO/RA6, 41 VSS, 42 RB6/KBI2/PGC, 43 RB5/KBI1/SEG29, 44 RB4/KBI0/SEG11, 45 RB3/INT3/SEG10, 46 RB2/INT2/SEG9, 47 RB1/INT1/SEG8, 48 RB0/INT0/SEG30, 49 RD7/SEG7, 50 RD6/SEG6, 51 RD5/SEG5, 52 RD4/SEG4, 53 RD3/SEG3, 54 RD2/SEG2, 55 RD1/SEG1, 56 VSS, 57 VDD, 58 RD0/SEG0, 59 RE7/CCP2/SEG31, 60 RE6/COM3, 61 RE5/COM2, 62 RE4/COM1, 63 RE3/COM0, 64 LCDBIAS3

## PIC18F26K83-_/SO
designator U?
Flash Microcontrollers  with 10-Bit A/D and nanoWatt Technology; Value: PIC18F26K83-_/SO
footprint SO28 P1.27 C7.5X17.9 H2.7 (SOIC, 28-Leads, Body 17.9x7.50mm, Pitch 1.27mm, IPC Medium Density)
pins: 1 ~{MCLR}/VPP/RE3, 2 RA0, 3 RA1, 4 RA2, 5 RA3, 6 RA4, 7 RA5, 8 VSS, 9 RA7, 10 RA6, 11 RC0, 12 RC1, 13 RC2, 14 RC3, 15 RC4, 16 RC5, 17 RC6, 18 RC7, 19 VSS, 20 VDD, 21 RB0, 22 RB1, 23 RB2, 24 RB3, 25 RB4, 26 RB5, 27 RB6/PGC, 28 RB7/PGD

## PIC18F46K20-_/PT
designator U?
Flash Microcontrollers  with 10-Bit A/D and nanoWatt Technology; Value: *
footprint TQFP44 P0.8 C10X10 H1.2 (Thin QFP, 44-Leads, Body 10x10mm, Pitch 0.8mm, IPC Medium Density)
pins: 1 RC7/RX/DT, 2 RD4/PSP4, 3 RD5/PSP5/P1B, 4 RD6/PSP6/P1C, 5 RD7/PSP7/P1D, 6 VSS, 7 VDD, 8 RB0/INT0/FLT0/AN12, 9 RB1/INT1/AN10/C12IN3-, 10 RB2/INT2/AN8, 11 RB3/AN9/C12IN2-/CCP2, 12 NC, 13 NC, 14 RB4/KBI0/AN11, 15 RB5/KBI1/PGM, 16 RB6/KBI2/PGC, 17 RB7/KBI3/PGD, 18 ~{MCLR}/VPP/RE3, 19 RA0/AN0/C12IN0-, 20 RA1/AN1/C12IN1-, 21 RA2/AN2/VREF-/CVREF/C2IN+, 22 RA3/AN3/VREF+/C1IN+, 23 RA4/T0CKI/C1OUT, 24 RA5/AN4/~{SS}/HLVDIN/C2OUT, 25 RE0/~{RD}/AN5, 26 RE1/~{WR}/AN6, 27 RE2/~{CS}/AN7, 28 VDD, 29 VSS, 30 OSC1/CLKIN/RA7, 31 OSC2/CLKOUT/RA6, 32 RC0/T1OSO/T13CKI, 33 NC, 34 NC, 35 RC1/T1OSI/CCP2, 36 RC2/CCP1/P1A, 37 RC3/SCK/SCL, 38 RD0/PSP0, 39 RD1/PSP1, 40 RD2/PSP2, 41 RD3/PSP3, 42 RC4/SDI/SDA, 43 RC5/SDO, 44 RC6/TX/CK

## PIC18F46K20-TQFP
designator U?, comment PIC18(L)F46K20
MICROCHIP PIC18F46K20-TQFP; Value: PIC18(L)F46K20
footprint TQFP44 P0.8 C10X10 H1.2 (Thin QFP, 44-Leads, Body 10x10mm, Pitch 0.8mm, IPC Medium Density)
pins: 1 RC7/RX/DT, 2 RD4/PSP4, 3 RD5/PSP5/P1B, 4 RD6/PSP6/P1C, 5 RD7/PSP7/P1D, 6 VSS, 7 VDD, 8 RB0/INT0/FLT0/AN12, 9 RB1/INT1/AN10/C12IN3-, 10 RB2/INT2/AN8, 11 RB3/AN9/C12IN2-/CCP2, 12 NC, 13 NC, 14 RB4/KBI0/AN11, 15 RB5/KBI1/PGM, 16 RB6/KBI2/PGC, 17 RB7/KBI3/PGD, 18 ~{MCLR}/VPP/RE3, 19 RA0/AN0/C12IN0-, 20 RA1/AN1/C12IN1-, 21 RA2/AN2/VREF-/CVREF/C2IN+, 22 RA3/AN3/VREF+/C1IN+, 23 RA4/T0CKI/C1OUT, 24 RA5/AN4/~{SS}/HLVDIN/C2OUT, 25 RE0/~{RD}/AN5, 26 RE1/~{WR}/AN6, 27 RE2/~{CS}/AN7, 28 VDD, 29 VSS, 30 OSC1/CLKIN/RA7, 31 OSC2/CLKOUT/RA6, 32 RC0/T1OSO/T13CKI, 33 NC, 34 NC, 35 RC1/T1OSI/CCP2, 36 RC2/CCP1/P1A, 37 RC3/SCK/SCL, 38 RD0/PSP0, 39 RD1/PSP1, 40 RD2/PSP2, 41 RD3/PSP3, 42 RC4/SDI/SDA, 43 RC5/SDO, 44 RC6/TX/CK

## PIC18F46K22-TQFP
designator U?, comment PIC18(L)F46K22
MICROCHIP PIC18F46K22-TQFP; Value: PIC18(L)F46K22
footprint TQFP44 P0.8 C10X10 H1.2 (Thin QFP, 44-Leads, Body 10x10mm, Pitch 0.8mm, IPC Medium Density)
pins: 1 RC7/RX1/DT1/AN19, 2 RD4/P2D/SDO2/AN24, 3 RD5/P1B/AN25, 4 RD6/P1C/TX2/CK2/AN26, 5 RD7/P1D/RX2/DT2/AN27, 6 VSS, 7 VDD, 8 RB0/INT0/FLT0/SRI/AN12, 9 RB1/INT1/C12IN3-/AN10, 10 RB2/INT2/CTED1/AN8, 11 RB3/CTED2/P2A/CCP2/C12IN2-/AN9, 12 NC, 13 NC, 14 RB4/IOC0/T5G/AN11, 15 RB5/IOC1/P3A/CCP3/T3CKI/T1G/AN13, 16 RB6/IOC2/PGC, 17 RB7/IOC3/PGD, 18 ~{MCLR}/VPP/RE3, 19 RA0/C12IN0-/AN0, 20 RA1/C12IN1-/AN1, 21 RA2/C2IN+/AN2/DACOUT/VREF-, 22 RA3/C1IN+/AN3/VREF+, 23 RA4/C1OUT/SRQ/T0CKI, 24 RA5/C2OUT/SRNQ/SS1/HLVDIN/AN4, 25 RE0/P3A/CCP3/AN5, 26 RE1/P3B/AN6, 27 RE2/CCP5/AN7, 28 VDD, 29 VSS, 30 RA7/CLKI/OSC1, 31 RA6/CLKO/OSC2, 32 RC0/P2B/T3CKI/T3G/T1CKI/SOSCO, 33 NC, 34 NC, 35 RC1/P2A/CCP2/SOSCI, 36 RC2/CTPLS/P1A/CCP1/T5CKI/AN14, 37 RC3/SCK1/SCL1/AN15, 38 RD0/SCK2/SCL2/AN20, 39 RD1/CCP4/SDI2/SDA2/AN21, 40 RD2/P2B/AN22, 41 RD3/P2C/SS2/AN23, 42 RC4/SDI1/SDA1/AN16, 43 RC5/SDO1/AN17, 44 RC6/TX1/CK1/AN18

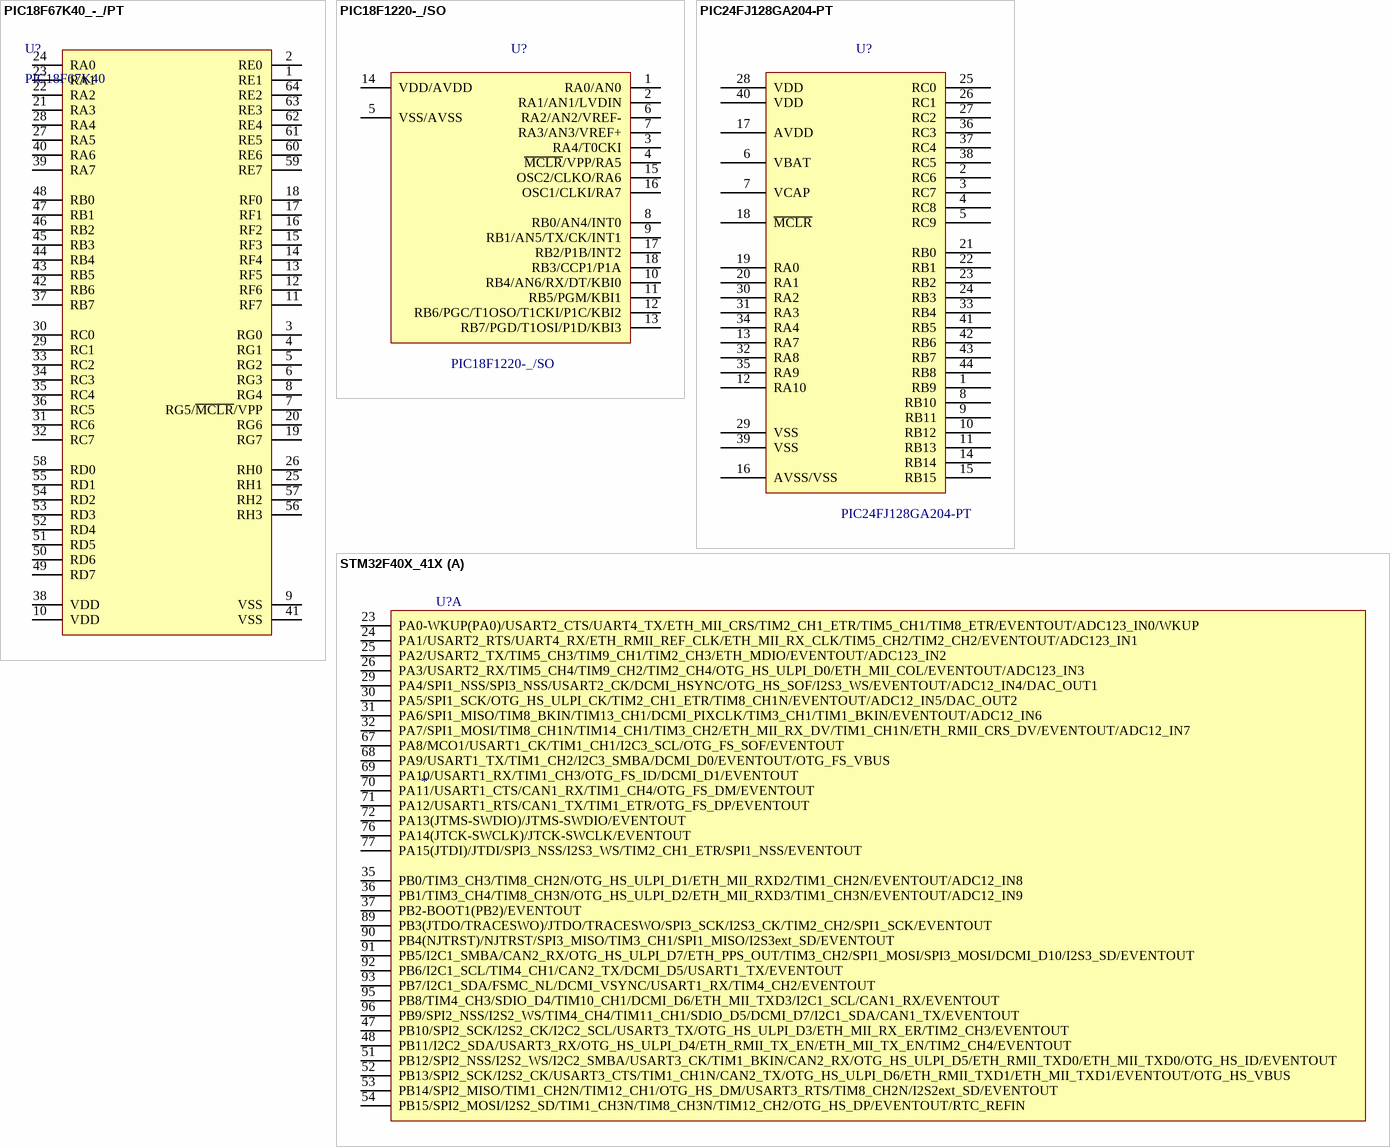
[diagram p14: symbols PIC18F67K40_-_/PT to STM32F40X_41X]

## PIC18F67K40_-_/PT
designator U?, comment PIC18F67K40
Low-Power, High-Performance Microcontrollers with XLP Technology; Value: PIC18F67K40
footprint TQFP64 P0.5 C12X12 H1.2 (TQFP, 64-Leads, Body 10.00x10.00mm, Pitch 0.50mm)
pins: 1 RE1, 2 RE0, 3 RG0, 4 RG1, 5 RG2, 6 RG3, 7 RG5/~{MCLR}/VPP, 8 RG4, 9 VSS "Ground reference for logic and I/O pins.", 10 VDD, 11 RF7, 12 RF6, 13 RF5, 14 RF4, 15 RF3, 16 RF2, 17 RF1, 18 RF0 "Enable for on-chip voltage regulator.", 19 RG7 "Ground reference for analog modules.", 20 RG6 "Positive supply for analog modules.", 21 RA3, 22 RA2, 23 RA1, 24 RA0, 25 RH1 "Ground reference for logic and I/O pins.", 26 RH0 "Positive supply for logic and I/O pins.", 27 RA5, 28 RA4, 29 RC1, 30 RC0, 31 RC6, 32 RC7, 33 RC2, 34 RC3, 35 RC4, 36 RC5, 37 RB7, 38 VDD "Positive supply for logic and I/O pins.", 39 RA7, 40 RA6, 41 VSS "Ground reference for logic and I/O pins.", 42 RB6, 43 RB5, 44 RB4, 45 RB3, 46 RB2, 47 RB1, 48 RB0, 49 RD7, 50 RD6, 51 RD5, 52 RD4, 53 RD3, 54 RD2, 55 RD1, 56 RH3 "Ground reference for logic and I/O pins.", 57 RH2 "Positive supply for logic and I/O pins.", 58 RD0, 59 RE7, 60 RE6, 61 RE5, 62 RE4, 63 RE3, 64 RE2

## PIC18F1220-_/SO
designator U?
Flash Microcontrollers  with 10-Bit A/D; Value: PIC18F1220-_/SO
footprint SO18 P1.27 C7.5X11.6 H2.7 (SOIC, 18-Leads, Body 11.60x7.50mm, Pitch 1.27mm, IPC Medium Density)
pins: 1 RA0/AN0, 2 RA1/AN1/LVDIN, 3 RA4/T0CKI, 4 ~{MCLR}/VPP/RA5, 5 VSS/AVSS, 6 RA2/AN2/VREF-, 7 RA3/AN3/VREF+, 8 RB0/AN4/INT0, 9 RB1/AN5/TX/CK/INT1, 10 RB4/AN6/RX/DT/KBI0, 11 RB5/PGM/KBI1, 12 RB6/PGC/T1OSO/T1CKI/P1C/KBI2, 13 RB7/PGD/T1OSI/P1D/KBI3, 14 VDD/AVDD, 15 OSC2/CLKO/RA6, 16 OSC1/CLKI/RA7, 17 RB2/P1B/INT2, 18 RB3/CCP1/P1A

## PIC24FJ128GA204-PT
designator U?
General Purpose, 16-Bit Flash Microcontrollers with  Cryptographic Engine; Value: PIC24FJ128GA204-PT
footprint TQFP44 P0.8 C10X10 H1.2 (Thin QFP, 44-Leads, Body 10x10mm, Pitch 0.8mm, IPC Medium Density)
pins: 1 RB9, 2 RC6, 3 RC7, 4 RC8, 5 RC9, 6 VBAT, 7 VCAP, 8 RB10, 9 RB11, 10 RB12, 11 RB13, 12 RA10, 13 RA7, 14 RB14, 15 RB15, 16 AVSS/VSS, 17 AVDD, 18 ~{MCLR}, 19 RA0, 20 RA1, 21 RB0, 22 RB1, 23 RB2, 24 RB3, 25 RC0, 26 RC1, 27 RC2, 28 VDD, 29 VSS, 30 RA2, 31 RA3, 32 RA8, 33 RB4, 34 RA4, 35 RA9, 36 RC3, 37 RC4, 38 RC5, 39 VSS, 40 VDD, 41 RB5, 42 RB6, 43 RB7, 44 RB8

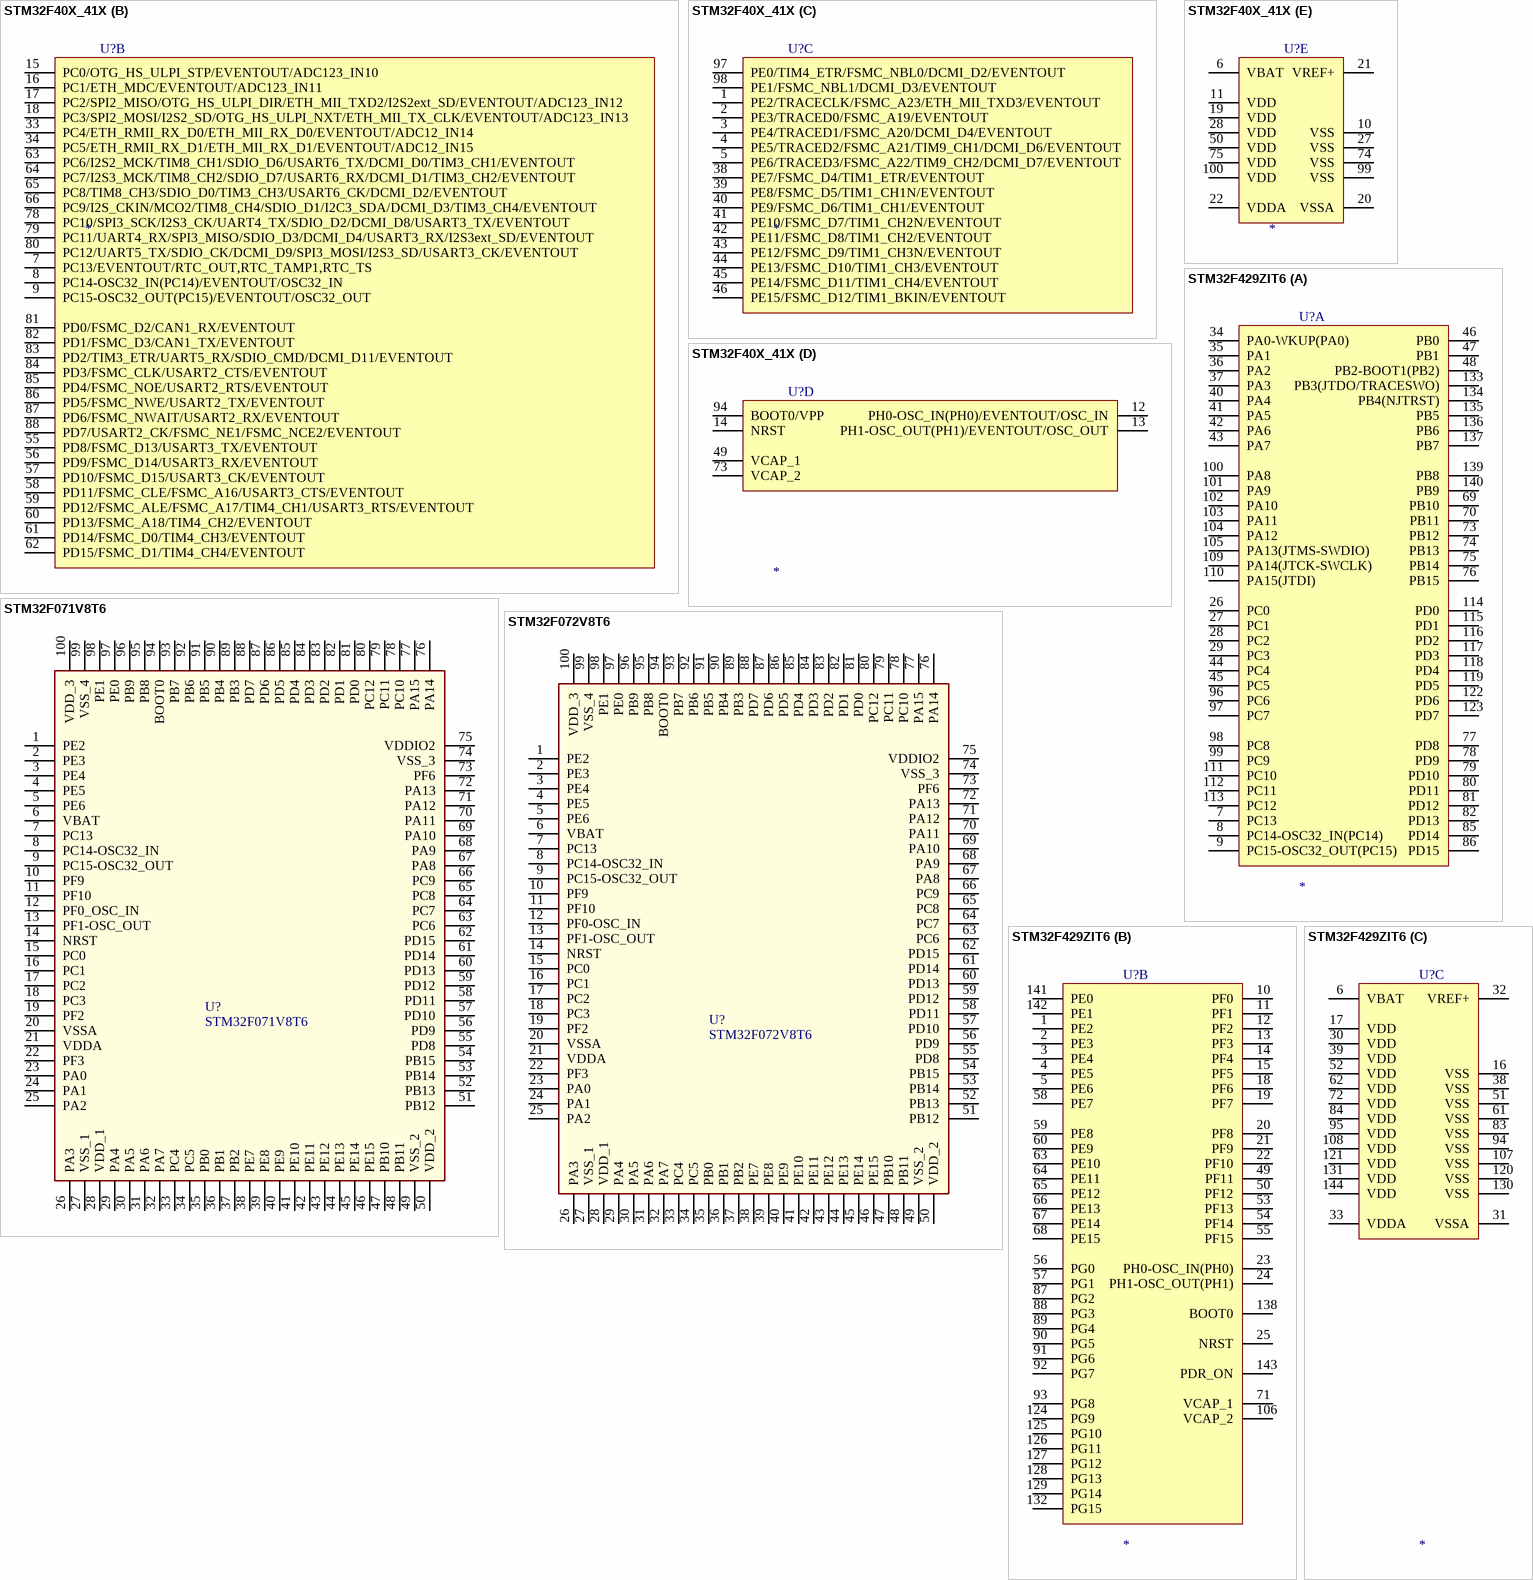
[diagram p15: symbols STM32F40X_41X to STM32F429ZIT6]

## STM32F40X_41X
designator U?
ARM Cortex-M4 32b MCU+FPU; Value: *
footprint LQFP100 P0.5 C14.0X14.0 H1.6 (Thin QFP, 100-Leads, Body 14x14mm, Pitch 0.5mm, IPC Medium Density)
part A pins: 23 PA0-WKUP(PA0)/USART2_CTS/UART4_TX/ETH_MII_CRS/TIM2_CH1_ETR/TIM5_CH1/TIM8_ETR/EVENTOUT/ADC123_IN0/WKUP, 24 PA1/USART2_RTS/UART4_RX/ETH_RMII_REF_CLK/ETH_MII_RX_CLK/TIM5_CH2/TIM2_CH2/EVENTOUT/ADC123_IN1, 25 PA2/USART2_TX/TIM5_CH3/TIM9_CH1/TIM2_CH3/ETH_MDIO/EVENTOUT/ADC123_IN2, 26 PA3/USART2_RX/TIM5_CH4/TIM9_CH2/TIM2_CH4/OTG_HS_ULPI_D0/ETH_MII_COL/EVENTOUT/ADC123_IN3, 29 PA4/SPI1_NSS/SPI3_NSS/USART2_CK/DCMI_HSYNC/OTG_HS_SOF/I2S3_WS/EVENTOUT/ADC12_IN4/DAC_OUT1, 30 PA5/SPI1_SCK/OTG_HS_ULPI_CK/TIM2_CH1_ETR/TIM8_CH1N/EVENTOUT/ADC12_IN5/DAC_OUT2, 31 PA6/SPI1_MISO/TIM8_BKIN/TIM13_CH1/DCMI_PIXCLK/TIM3_CH1/TIM1_BKIN/EVENTOUT/ADC12_IN6, 32 PA7/SPI1_MOSI/TIM8_CH1N/TIM14_CH1/TIM3_CH2/ETH_MII_RX_DV/TIM1_CH1N/ETH_RMII_CRS_DV/EVENTOUT/ADC12_IN7, 35 PB0/TIM3_CH3/TIM8_CH2N/OTG_HS_ULPI_D1/ETH_MII_RXD2/TIM1_CH2N/EVENTOUT/ADC12_IN8, 36 PB1/TIM3_CH4/TIM8_CH3N/OTG_HS_ULPI_D2/ETH_MII_RXD3/TIM1_CH3N/EVENTOUT/ADC12_IN9, 37 PB2-BOOT1(PB2)/EVENTOUT, 47 PB10/SPI2_SCK/I2S2_CK/I2C2_SCL/USART3_TX/OTG_HS_ULPI_D3/ETH_MII_RX_ER/TIM2_CH3/EVENTOUT, 48 PB11/I2C2_SDA/USART3_RX/OTG_HS_ULPI_D4/ETH_RMII_TX_EN/ETH_MII_TX_EN/TIM2_CH4/EVENTOUT, 51 PB12/SPI2_NSS/I2S2_WS/I2C2_SMBA/USART3_CK/TIM1_BKIN/CAN2_RX/OTG_HS_ULPI_D5/ETH_RMII_TXD0/ETH_MII_TXD0/OTG_HS_ID/EVENTOUT, 52 PB13/SPI2_SCK/I2S2_CK/USART3_CTS/TIM1_CH1N/CAN2_TX/OTG_HS_ULPI_D6/ETH_RMII_TXD1/ETH_MII_TXD1/EVENTOUT/OTG_HS_VBUS, 53 PB14/SPI2_MISO/TIM1_CH2N/TIM12_CH1/OTG_HS_DM/USART3_RTS/TIM8_CH2N/I2S2ext_SD/EVENTOUT, 54 PB15/SPI2_MOSI/I2S2_SD/TIM1_CH3N/TIM8_CH3N/TIM12_CH2/OTG_HS_DP/EVENTOUT/RTC_REFIN, 67 PA8/MCO1/USART1_CK/TIM1_CH1/I2C3_SCL/OTG_FS_SOF/EVENTOUT, 68 PA9/USART1_TX/TIM1_CH2/I2C3_SMBA/DCMI_D0/EVENTOUT/OTG_FS_VBUS, 69 PA10/USART1_RX/TIM1_CH3/OTG_FS_ID/DCMI_D1/EVENTOUT, 70 PA11/USART1_CTS/CAN1_RX/TIM1_CH4/OTG_FS_DM/EVENTOUT, 71 PA12/USART1_RTS/CAN1_TX/TIM1_ETR/OTG_FS_DP/EVENTOUT, 72 PA13(JTMS-SWDIO)/JTMS-SWDIO/EVENTOUT, 76 PA14(JTCK-SWCLK)/JTCK-SWCLK/EVENTOUT, 77 PA15(JTDI)/JTDI/SPI3_NSS/I2S3_WS/TIM2_CH1_ETR/SPI1_NSS/EVENTOUT, 89 PB3(JTDO/TRACESWO)/JTDO/TRACESWO/SPI3_SCK/I2S3_CK/TIM2_CH2/SPI1_SCK/EVENTOUT, 90 PB4(NJTRST)/NJTRST/SPI3_MISO/TIM3_CH1/SPI1_MISO/I2S3ext_SD/EVENTOUT, 91 PB5/I2C1_SMBA/CAN2_RX/OTG_HS_ULPI_D7/ETH_PPS_OUT/TIM3_CH2/SPI1_MOSI/SPI3_MOSI/DCMI_D10/I2S3_SD/EVENTOUT, 92 PB6/I2C1_SCL/TIM4_CH1/CAN2_TX/DCMI_D5/USART1_TX/EVENTOUT, 93 PB7/I2C1_SDA/FSMC_NL/DCMI_VSYNC/USART1_RX/TIM4_CH2/EVENTOUT, 95 PB8/TIM4_CH3/SDIO_D4/TIM10_CH1/DCMI_D6/ETH_MII_TXD3/I2C1_SCL/CAN1_RX/EVENTOUT, 96 PB9/SPI2_NSS/I2S2_WS/TIM4_CH4/TIM11_CH1/SDIO_D5/DCMI_D7/I2C1_SDA/CAN1_TX/EVENTOUT
part B pins: 7 PC13/EVENTOUT/RTC_OUT,RTC_TAMP1,RTC_TS, 8 PC14-OSC32_IN(PC14)/EVENTOUT/OSC32_IN, 9 PC15-OSC32_OUT(PC15)/EVENTOUT/OSC32_OUT, 15 PC0/OTG_HS_ULPI_STP/EVENTOUT/ADC123_IN10, 16 PC1/ETH_MDC/EVENTOUT/ADC123_IN11, 17 PC2/SPI2_MISO/OTG_HS_ULPI_DIR/ETH_MII_TXD2/I2S2ext_SD/EVENTOUT/ADC123_IN12, 18 PC3/SPI2_MOSI/I2S2_SD/OTG_HS_ULPI_NXT/ETH_MII_TX_CLK/EVENTOUT/ADC123_IN13, 33 PC4/ETH_RMII_RX_D0/ETH_MII_RX_D0/EVENTOUT/ADC12_IN14, 34 PC5/ETH_RMII_RX_D1/ETH_MII_RX_D1/EVENTOUT/ADC12_IN15, 55 PD8/FSMC_D13/USART3_TX/EVENTOUT, 56 PD9/FSMC_D14/USART3_RX/EVENTOUT, 57 PD10/FSMC_D15/USART3_CK/EVENTOUT, 58 PD11/FSMC_CLE/FSMC_A16/USART3_CTS/EVENTOUT, 59 PD12/FSMC_ALE/FSMC_A17/TIM4_CH1/USART3_RTS/EVENTOUT, 60 PD13/FSMC_A18/TIM4_CH2/EVENTOUT, 61 PD14/FSMC_D0/TIM4_CH3/EVENTOUT, 62 PD15/FSMC_D1/TIM4_CH4/EVENTOUT, 63 PC6/I2S2_MCK/TIM8_CH1/SDIO_D6/USART6_TX/DCMI_D0/TIM3_CH1/EVENTOUT, 64 PC7/I2S3_MCK/TIM8_CH2/SDIO_D7/USART6_RX/DCMI_D1/TIM3_CH2/EVENTOUT, 65 PC8/TIM8_CH3/SDIO_D0/TIM3_CH3/USART6_CK/DCMI_D2/EVENTOUT, 66 PC9/I2S_CKIN/MCO2/TIM8_CH4/SDIO_D1/I2C3_SDA/DCMI_D3/TIM3_CH4/EVENTOUT, 78 PC10/SPI3_SCK/I2S3_CK/UART4_TX/SDIO_D2/DCMI_D8/USART3_TX/EVENTOUT, 79 PC11/UART4_RX/SPI3_MISO/SDIO_D3/DCMI_D4/USART3_RX/I2S3ext_SD/EVENTOUT, 80 PC12/UART5_TX/SDIO_CK/DCMI_D9/SPI3_MOSI/I2S3_SD/USART3_CK/EVENTOUT, 81 PD0/FSMC_D2/CAN1_RX/EVENTOUT, 82 PD1/FSMC_D3/CAN1_TX/EVENTOUT, 83 PD2/TIM3_ETR/UART5_RX/SDIO_CMD/DCMI_D11/EVENTOUT, 84 PD3/FSMC_CLK/USART2_CTS/EVENTOUT, 85 PD4/FSMC_NOE/USART2_RTS/EVENTOUT, 86 PD5/FSMC_NWE/USART2_TX/EVENTOUT, 87 PD6/FSMC_NWAIT/USART2_RX/EVENTOUT, 88 PD7/USART2_CK/FSMC_NE1/FSMC_NCE2/EVENTOUT
part C pins: 1 PE2/TRACECLK/FSMC_A23/ETH_MII_TXD3/EVENTOUT, 2 PE3/TRACED0/FSMC_A19/EVENTOUT, 3 PE4/TRACED1/FSMC_A20/DCMI_D4/EVENTOUT, 4 PE5/TRACED2/FSMC_A21/TIM9_CH1/DCMI_D6/EVENTOUT, 5 PE6/TRACED3/FSMC_A22/TIM9_CH2/DCMI_D7/EVENTOUT, 38 PE7/FSMC_D4/TIM1_ETR/EVENTOUT, 39 PE8/FSMC_D5/TIM1_CH1N/EVENTOUT, 40 PE9/FSMC_D6/TIM1_CH1/EVENTOUT, 41 PE10/FSMC_D7/TIM1_CH2N/EVENTOUT, 42 PE11/FSMC_D8/TIM1_CH2/EVENTOUT, 43 PE12/FSMC_D9/TIM1_CH3N/EVENTOUT, 44 PE13/FSMC_D10/TIM1_CH3/EVENTOUT, 45 PE14/FSMC_D11/TIM1_CH4/EVENTOUT, 46 PE15/FSMC_D12/TIM1_BKIN/EVENTOUT, 97 PE0/TIM4_ETR/FSMC_NBL0/DCMI_D2/EVENTOUT, 98 PE1/FSMC_NBL1/DCMI_D3/EVENTOUT
part D pins: 12 PH0-OSC_IN(PH0)/EVENTOUT/OSC_IN, 13 PH1-OSC_OUT(PH1)/EVENTOUT/OSC_OUT, 14 NRST, 49 VCAP_1, 73 VCAP_2, 94 BOOT0/VPP
part E pins: 6 VBAT, 10 VSS, 11 VDD, 19 VDD, 20 VSSA, 21 VREF+, 22 VDDA, 27 VSS, 28 VDD, 50 VDD, 74 VSS, 75 VDD, 99 VSS, 100 VDD

## STM32F071V8T6
designator U?
Arm-based 32-bit MCU, up to 128 KB Flash, 12 timers, ADC, DAC and communication interfaces, 2.0 - 3.6 V; Manufacturer: ST; Mouser No: 511-STM32F071V8T6; Value: STM32F071V8T6
footprint LQFP100 P0.5 C14.0X14.0 H1.6 (Thin QFP, 100-Leads, Body 14x14mm, Pitch 0.5mm, IPC Medium Density)
pins: 1 PE2, 2 PE3, 3 PE4, 4 PE5, 5 PE6, 6 VBAT, 7 PC13, 8 PC14-OSC32_IN, 9 PC15-OSC32_OUT, 10 PF9, 11 PF10, 12 PF0_OSC_IN, 13 PF1-OSC_OUT, 14 NRST, 15 PC0, 16 PC1, 17 PC2, 18 PC3, 19 PF2, 20 VSSA, 21 VDDA, 22 PF3, 23 PA0, 24 PA1, 25 PA2, 26 PA3, 27 VSS_1, 28 VDD_1, 29 PA4, 30 PA5, 31 PA6, 32 PA7, 33 PC4, 34 PC5, 35 PB0, 36 PB1, 37 PB2, 38 PE7, 39 PE8, 40 PE9, 41 PE10, 42 PE11, 43 PE12, 44 PE13, 45 PE14, 46 PE15, 47 PB10, 48 PB11, 49 VSS_2, 50 VDD_2, 51 PB12, 52 PB13, 53 PB14, 54 PB15, 55 PD8, 56 PD9, 57 PD10, 58 PD11, 59 PD12, 60 PD13, 61 PD14, 62 PD15, 63 PC6, 64 PC7, 65 PC8, 66 PC9, 67 PA8, 68 PA9, 69 PA10, 70 PA11, 71 PA12, 72 PA13, 73 PF6, 74 VSS_3, 75 VDDIO2, 76 PA14, 77 PA15, 78 PC10, 79 PC11, 80 PC12, 81 PD0, 82 PD1, 83 PD2, 84 PD3, 85 PD4, 86 PD5, 87 PD6, 88 PD7, 89 PB3, 90 PB4, 91 PB5, 92 PB6, 93 PB7, 94 BOOT0, 95 PB8, 96 PB9, 97 PE0, 98 PE1, 99 VSS_4, 100 VDD_3

## STM32F072V8T6
designator U?
Arm-based 32-bit MCU, up to 128 KB Flash, crystal-less USB FS 2.0, CAN, 12 timers, ADC, DAC & comm. interfaces, 2.0 - 3.6 V; Manufacturer: ST; Mouser No: 511-STM32F072V8T6; Value: STM32F072V8T6
footprint LQFP100 P0.5 C14.0X14.0 H1.6 (Thin QFP, 100-Leads, Body 14x14mm, Pitch 0.5mm, IPC Medium Density)
pins: 1 PE2, 2 PE3, 3 PE4, 4 PE5, 5 PE6, 6 VBAT, 7 PC13, 8 PC14-OSC32_IN, 9 PC15-OSC32_OUT, 10 PF9, 11 PF10, 12 PF0-OSC_IN, 13 PF1-OSC_OUT, 14 NRST, 15 PC0, 16 PC1, 17 PC2, 18 PC3, 19 PF2, 20 VSSA, 21 VDDA, 22 PF3, 23 PA0, 24 PA1, 25 PA2, 26 PA3, 27 VSS_1, 28 VDD_1, 29 PA4, 30 PA5, 31 PA6, 32 PA7, 33 PC4, 34 PC5, 35 PB0, 36 PB1, 37 PB2, 38 PE7, 39 PE8, 40 PE9, 41 PE10, 42 PE11, 43 PE12, 44 PE13, 45 PE14, 46 PE15, 47 PB10, 48 PB11, 49 VSS_2, 50 VDD_2, 51 PB12, 52 PB13, 53 PB14, 54 PB15, 55 PD8, 56 PD9, 57 PD10, 58 PD11, 59 PD12, 60 PD13, 61 PD14, 62 PD15, 63 PC6, 64 PC7, 65 PC8, 66 PC9, 67 PA8, 68 PA9, 69 PA10, 70 PA11, 71 PA12, 72 PA13, 73 PF6, 74 VSS_3, 75 VDDIO2, 76 PA14, 77 PA15, 78 PC10, 79 PC11, 80 PC12, 81 PD0, 82 PD1, 83 PD2, 84 PD3, 85 PD4, 86 PD5, 87 PD6, 88 PD7, 89 PB3, 90 PB4, 91 PB5, 92 PB6, 93 PB7, 94 BOOT0, 95 PB8, 96 PB9, 97 PE0, 98 PE1, 99 VSS_4, 100 VDD_3